# Altium integrated library Freescale Semiconductor Kinetis ARM.IntLib: 48 symbols (part 2 of 6)
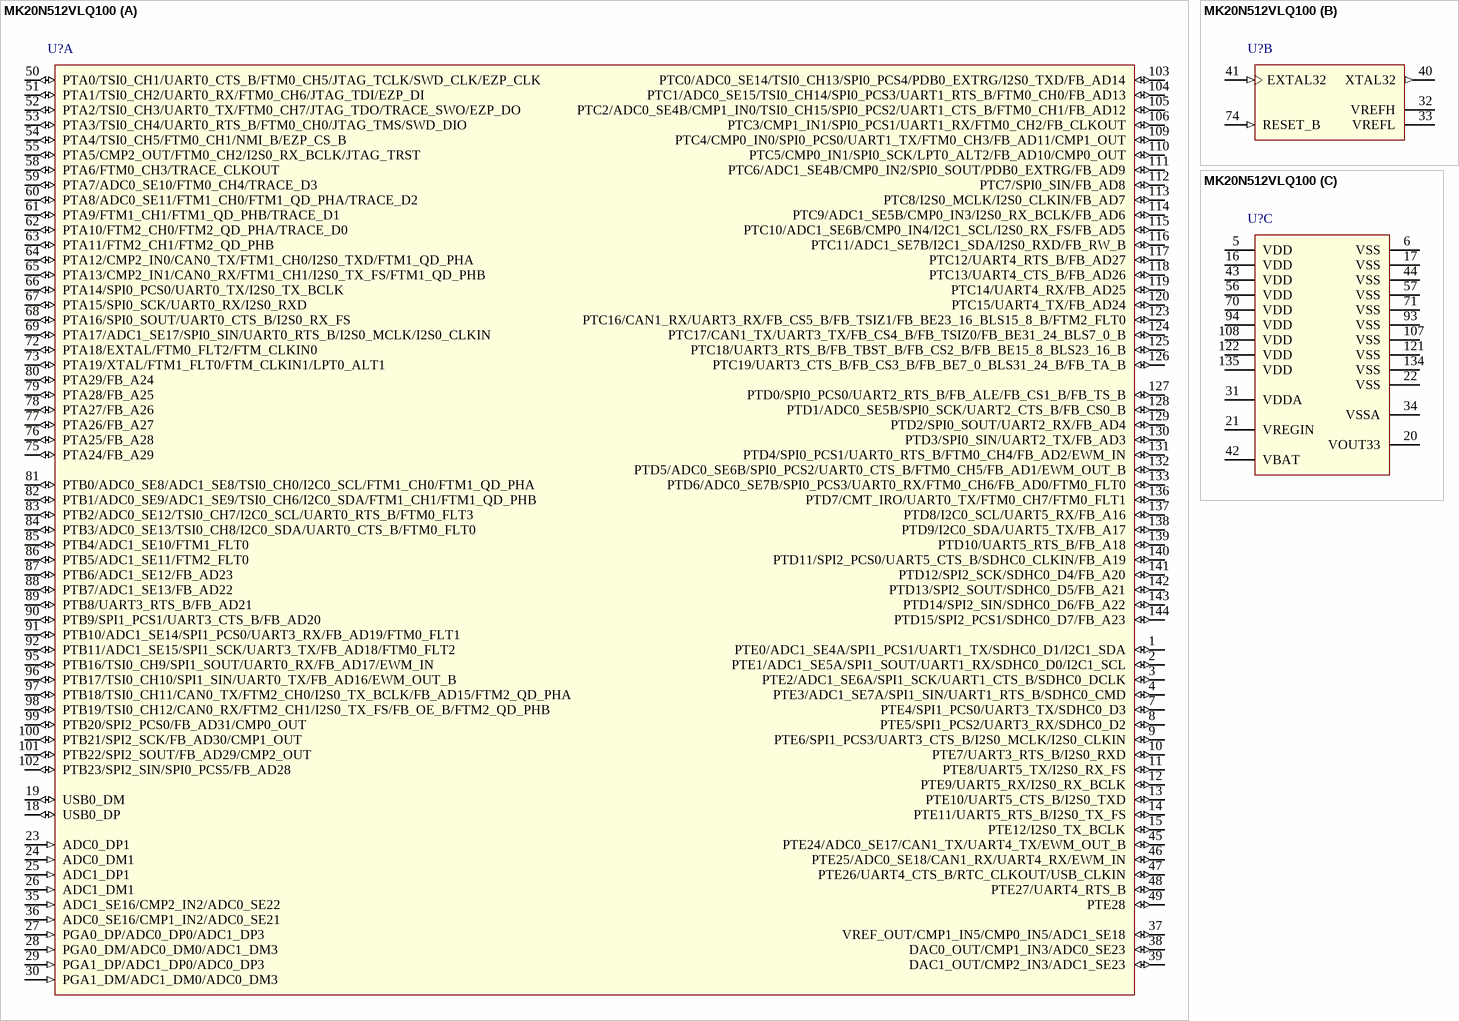
[diagram p36: symbol MK20N512VLQ100]

## MK20N512VLQ100
designator U?
Kinetis 32-Bit ARM Cortex-M4 Core, K20, 512KB Program Flash Memory, 128KB RAM, 144-Pin LQFP; DatasheetVersion: rev4, Mar-2011; PackageVersion: revG, Nov-2009; PackageReference: 918-03; PackageDescription: 144-Pin Thin Quad Flat Pack, 20 x 20 mm Body, 0.5 mm Pitch; ComponentLink1Description: Manufacturer URL; ComponentLink1URL: http://www.freescale.com/
footprint 918-03_N (Thin QFP, 144-Leads, Body 20x20mm, Pitch 0.5mm, IPC Medium Density)
footprint 918-03_L (Thin QFP, 144-Leads, Body 20x20mm, Pitch 0.5mm, IPC High Density)
footprint 918-03_M (Thin QFP, 144-Leads, Body 20x20mm, Pitch 0.5mm, IPC Low Density)
part A pins: 1 PTE0/ADC1_SE4A/SPI1_PCS1/UART1_TX/SDHC0_D1/I2C1_SDA (io), 2 PTE1/ADC1_SE5A/SPI1_SOUT/UART1_RX/SDHC0_D0/I2C1_SCL (io), 3 PTE2/ADC1_SE6A/SPI1_SCK/UART1_CTS_B/SDHC0_DCLK (io), 4 PTE3/ADC1_SE7A/SPI1_SIN/UART1_RTS_B/SDHC0_CMD (io), 7 PTE4/SPI1_PCS0/UART3_TX/SDHC0_D3 (io), 8 PTE5/SPI1_PCS2/UART3_RX/SDHC0_D2 (io), 9 PTE6/SPI1_PCS3/UART3_CTS_B/I2S0_MCLK/I2S0_CLKIN (io), 10 PTE7/UART3_RTS_B/I2S0_RXD (io), 11 PTE8/UART5_TX/I2S0_RX_FS (io), 12 PTE9/UART5_RX/I2S0_RX_BCLK (io), 13 PTE10/UART5_CTS_B/I2S0_TXD (io), 14 PTE11/UART5_RTS_B/I2S0_TX_FS (io), 15 PTE12/I2S0_TX_BCLK (io), 18 USB0_DP (io), 19 USB0_DM (io), 23 ADC0_DP1 (in), 24 ADC0_DM1 (in), 25 ADC1_DP1 (in), 26 ADC1_DM1 (in), 27 PGA0_DP/ADC0_DP0/ADC1_DP3 (in), 28 PGA0_DM/ADC0_DM0/ADC1_DM3 (in), 29 PGA1_DP/ADC1_DP0/ADC0_DP3 (in), 30 PGA1_DM/ADC1_DM0/ADC0_DM3 (in), 35 ADC1_SE16/CMP2_IN2/ADC0_SE22 (in), 36 ADC0_SE16/CMP1_IN2/ADC0_SE21 (in), 37 VREF_OUT/CMP1_IN5/CMP0_IN5/ADC1_SE18 (io), 38 DAC0_OUT/CMP1_IN3/ADC0_SE23 (io), 39 DAC1_OUT/CMP2_IN3/ADC1_SE23 (io), 45 PTE24/ADC0_SE17/CAN1_TX/UART4_TX/EWM_OUT_B (io), 46 PTE25/ADC0_SE18/CAN1_RX/UART4_RX/EWM_IN (io), 47 PTE26/UART4_CTS_B/RTC_CLKOUT/USB_CLKIN (io), 48 PTE27/UART4_RTS_B (io), 49 PTE28 (io), 50 PTA0/TSI0_CH1/UART0_CTS_B/FTM0_CH5/JTAG_TCLK/SWD_CLK/EZP_CLK (io), 51 PTA1/TSI0_CH2/UART0_RX/FTM0_CH6/JTAG_TDI/EZP_DI (io), 52 PTA2/TSI0_CH3/UART0_TX/FTM0_CH7/JTAG_TDO/TRACE_SWO/EZP_DO (io), 53 PTA3/TSI0_CH4/UART0_RTS_B/FTM0_CH0/JTAG_TMS/SWD_DIO (io), 54 PTA4/TSI0_CH5/FTM0_CH1/NMI_B/EZP_CS_B (io), 55 PTA5/CMP2_OUT/FTM0_CH2/I2S0_RX_BCLK/JTAG_TRST (io), 58 PTA6/FTM0_CH3/TRACE_CLKOUT (io), 59 PTA7/ADC0_SE10/FTM0_CH4/TRACE_D3 (io), 60 PTA8/ADC0_SE11/FTM1_CH0/FTM1_QD_PHA/TRACE_D2 (io), 61 PTA9/FTM1_CH1/FTM1_QD_PHB/TRACE_D1 (io), 62 PTA10/FTM2_CH0/FTM2_QD_PHA/TRACE_D0 (io), 63 PTA11/FTM2_CH1/FTM2_QD_PHB (io), 64 PTA12/CMP2_IN0/CAN0_TX/FTM1_CH0/I2S0_TXD/FTM1_QD_PHA (io), 65 PTA13/CMP2_IN1/CAN0_RX/FTM1_CH1/I2S0_TX_FS/FTM1_QD_PHB (io), 66 PTA14/SPI0_PCS0/UART0_TX/I2S0_TX_BCLK (io), 67 PTA15/SPI0_SCK/UART0_RX/I2S0_RXD (io), 68 PTA16/SPI0_SOUT/UART0_CTS_B/I2S0_RX_FS (io), 69 PTA17/ADC1_SE17/SPI0_SIN/UART0_RTS_B/I2S0_MCLK/I2S0_CLKIN (io), 72 PTA18/EXTAL/FTM0_FLT2/FTM_CLKIN0 (io), 73 PTA19/XTAL/FTM1_FLT0/FTM_CLKIN1/LPT0_ALT1 (io), 75 PTA24/FB_A29 (io), 76 PTA25/FB_A28 (io), 77 PTA26/FB_A27 (io), 78 PTA27/FB_A26 (io), 79 PTA28/FB_A25 (io), 80 PTA29/FB_A24 (io), 81 PTB0/ADC0_SE8/ADC1_SE8/TSI0_CH0/I2C0_SCL/FTM1_CH0/FTM1_QD_PHA (io), 82 PTB1/ADC0_SE9/ADC1_SE9/TSI0_CH6/I2C0_SDA/FTM1_CH1/FTM1_QD_PHB (io), 83 PTB2/ADC0_SE12/TSI0_CH7/I2C0_SCL/UART0_RTS_B/FTM0_FLT3 (io), 84 PTB3/ADC0_SE13/TSI0_CH8/I2C0_SDA/UART0_CTS_B/FTM0_FLT0 (io), 85 PTB4/ADC1_SE10/FTM1_FLT0 (io), 86 PTB5/ADC1_SE11/FTM2_FLT0 (io), 87 PTB6/ADC1_SE12/FB_AD23 (io), 88 PTB7/ADC1_SE13/FB_AD22 (io), 89 PTB8/UART3_RTS_B/FB_AD21 (io), 90 PTB9/SPI1_PCS1/UART3_CTS_B/FB_AD20 (io), 91 PTB10/ADC1_SE14/SPI1_PCS0/UART3_RX/FB_AD19/FTM0_FLT1 (io), 92 PTB11/ADC1_SE15/SPI1_SCK/UART3_TX/FB_AD18/FTM0_FLT2 (io), 95 PTB16/TSI0_CH9/SPI1_SOUT/UART0_RX/FB_AD17/EWM_IN (io), 96 PTB17/TSI0_CH10/SPI1_SIN/UART0_TX/FB_AD16/EWM_OUT_B (io), 97 PTB18/TSI0_CH11/CAN0_TX/FTM2_CH0/I2S0_TX_BCLK/FB_AD15/FTM2_QD_PHA (io), 98 PTB19/TSI0_CH12/CAN0_RX/FTM2_CH1/I2S0_TX_FS/FB_OE_B/FTM2_QD_PHB (io), 99 PTB20/SPI2_PCS0/FB_AD31/CMP0_OUT (io), 100 PTB21/SPI2_SCK/FB_AD30/CMP1_OUT (io), 101 PTB22/SPI2_SOUT/FB_AD29/CMP2_OUT (io), 102 PTB23/SPI2_SIN/SPI0_PCS5/FB_AD28 (io), 103 PTC0/ADC0_SE14/TSI0_CH13/SPI0_PCS4/PDB0_EXTRG/I2S0_TXD/FB_AD14 (io), 104 PTC1/ADC0_SE15/TSI0_CH14/SPI0_PCS3/UART1_RTS_B/FTM0_CH0/FB_AD13 (io), 105 PTC2/ADC0_SE4B/CMP1_IN0/TSI0_CH15/SPI0_PCS2/UART1_CTS_B/FTM0_CH1/FB_AD12 (io), 106 PTC3/CMP1_IN1/SPI0_PCS1/UART1_RX/FTM0_CH2/FB_CLKOUT (io), 109 PTC4/CMP0_IN0/SPI0_PCS0/UART1_TX/FTM0_CH3/FB_AD11/CMP1_OUT (io), 110 PTC5/CMP0_IN1/SPI0_SCK/LPT0_ALT2/FB_AD10/CMP0_OUT (io), 111 PTC6/ADC1_SE4B/CMP0_IN2/SPI0_SOUT/PDB0_EXTRG/FB_AD9 (io), 112 PTC7/SPI0_SIN/FB_AD8 (io), 113 PTC8/I2S0_MCLK/I2S0_CLKIN/FB_AD7 (io), 114 PTC9/ADC1_SE5B/CMP0_IN3/I2S0_RX_BCLK/FB_AD6 (io), 115 PTC10/ADC1_SE6B/CMP0_IN4/I2C1_SCL/I2S0_RX_FS/FB_AD5 (io), 116 PTC11/ADC1_SE7B/I2C1_SDA/I2S0_RXD/FB_RW_B (io), 117 PTC12/UART4_RTS_B/FB_AD27 (io), 118 PTC13/UART4_CTS_B/FB_AD26 (io), 119 PTC14/UART4_RX/FB_AD25 (io), 120 PTC15/UART4_TX/FB_AD24 (io), 123 PTC16/CAN1_RX/UART3_RX/FB_CS5_B/FB_TSIZ1/FB_BE23_16_BLS15_8_B/FTM2_FLT0 (io), 124 PTC17/CAN1_TX/UART3_TX/FB_CS4_B/FB_TSIZ0/FB_BE31_24_BLS7_0_B (io), 125 PTC18/UART3_RTS_B/FB_TBST_B/FB_CS2_B/FB_BE15_8_BLS23_16_B (io), 126 PTC19/UART3_CTS_B/FB_CS3_B/FB_BE7_0_BLS31_24_B/FB_TA_B (io), 127 PTD0/SPI0_PCS0/UART2_RTS_B/FB_ALE/FB_CS1_B/FB_TS_B (io), 128 PTD1/ADC0_SE5B/SPI0_SCK/UART2_CTS_B/FB_CS0_B (io), 129 PTD2/SPI0_SOUT/UART2_RX/FB_AD4 (io), 130 PTD3/SPI0_SIN/UART2_TX/FB_AD3 (io), 131 PTD4/SPI0_PCS1/UART0_RTS_B/FTM0_CH4/FB_AD2/EWM_IN (io), 132 PTD5/ADC0_SE6B/SPI0_PCS2/UART0_CTS_B/FTM0_CH5/FB_AD1/EWM_OUT_B (io), 133 PTD6/ADC0_SE7B/SPI0_PCS3/UART0_RX/FTM0_CH6/FB_AD0/FTM0_FLT0 (io), 136 PTD7/CMT_IRO/UART0_TX/FTM0_CH7/FTM0_FLT1 (io), 137 PTD8/I2C0_SCL/UART5_RX/FB_A16 (io), 138 PTD9/I2C0_SDA/UART5_TX/FB_A17 (io), 139 PTD10/UART5_RTS_B/FB_A18 (io), 140 PTD11/SPI2_PCS0/UART5_CTS_B/SDHC0_CLKIN/FB_A19 (io), 141 PTD12/SPI2_SCK/SDHC0_D4/FB_A20 (io), 142 PTD13/SPI2_SOUT/SDHC0_D5/FB_A21 (io), 143 PTD14/SPI2_SIN/SDHC0_D6/FB_A22 (io), 144 PTD15/SPI2_PCS1/SDHC0_D7/FB_A23 (io)
part B pins: 32 VREFH (power), 33 VREFL (power), 40 XTAL32 (out), 41 EXTAL32 (in), 74 RESET_B (in)
part C pins: 5 VDD (power), 6 VSS (power), 16 VDD (power), 17 VSS (power), 20 VOUT33 (power), 21 VREGIN (power), 22 VSS (power), 31 VDDA (power), 34 VSSA (power), 42 VBAT (power), 43 VDD (power), 44 VSS (power), 56 VDD (power), 57 VSS (power), 70 VDD (power), 71 VSS (power), 93 VSS (power), 94 VDD (power), 107 VSS (power), 108 VDD (power), 121 VSS (power), 122 VDD (power), 134 VSS (power), 135 VDD (power)

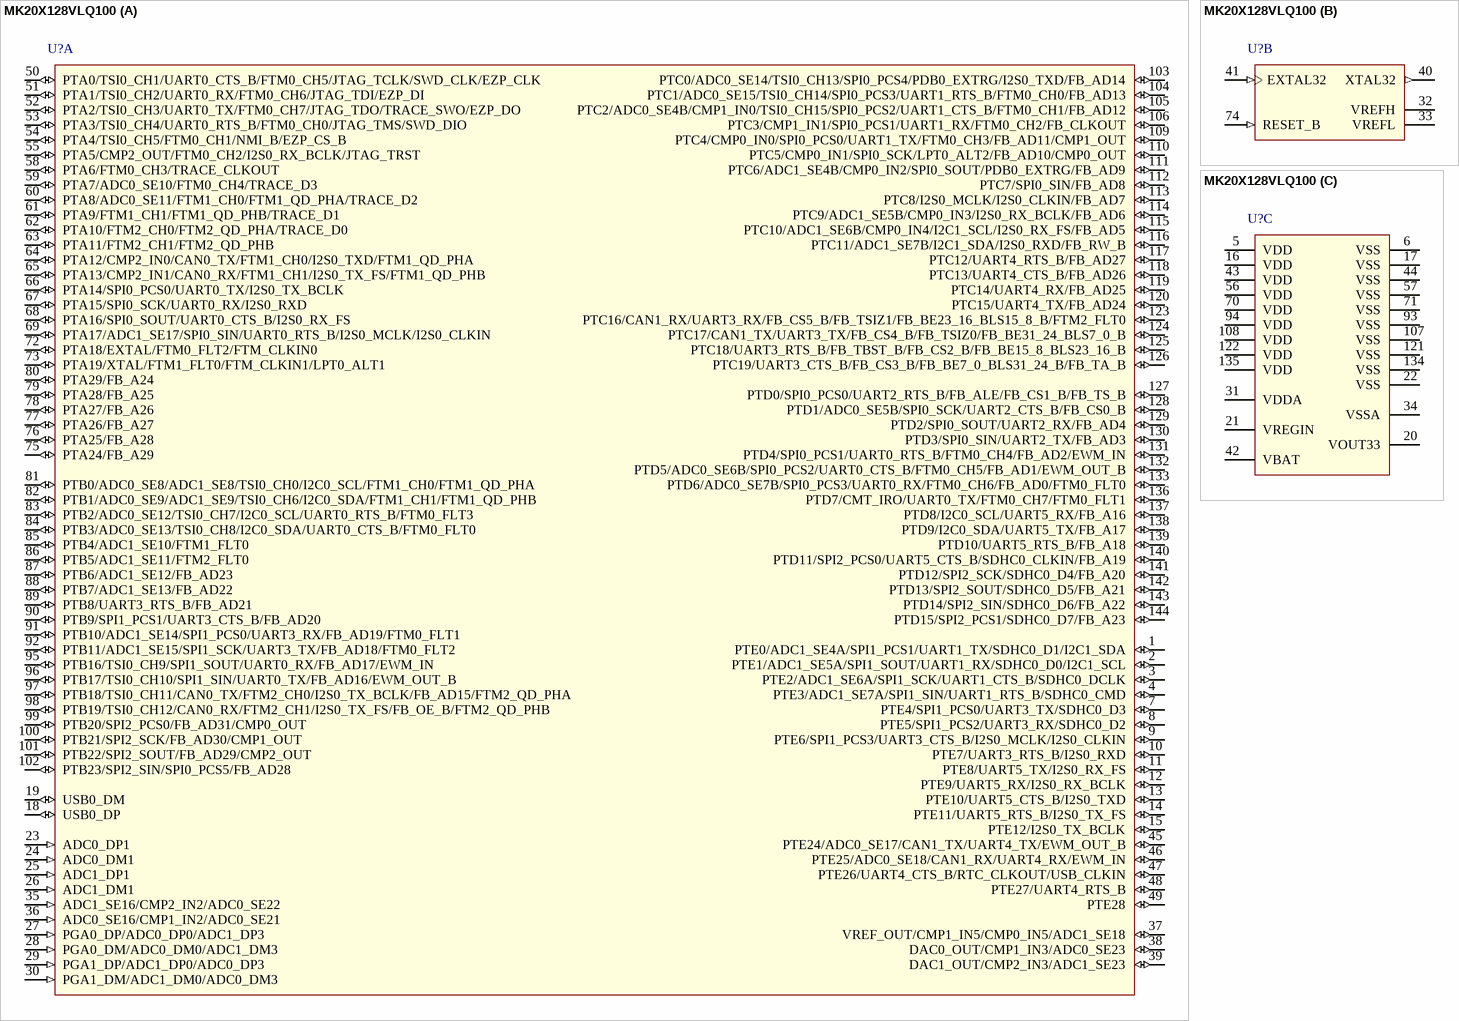
[diagram p7: symbol MK20X128VLQ100]

## MK20X128VLQ100
designator U?
Kinetis 32-Bit ARM Cortex-M4 Core, K20, 128KB Program Flash Memory, 128KB RAM, 4KB FlexRAM, 144-Pin LQFP; DatasheetVersion: rev4, Mar-2011; PackageVersion: revG, Nov-2009; PackageReference: 918-03; PackageDescription: 144-Pin Thin Quad Flat Pack, 20 x 20 mm Body, 0.5 mm Pitch; ComponentLink1Description: Manufacturer URL; ComponentLink1URL: http://www.freescale.com/
footprint 918-03_N (Thin QFP, 144-Leads, Body 20x20mm, Pitch 0.5mm, IPC Medium Density)
footprint 918-03_L (Thin QFP, 144-Leads, Body 20x20mm, Pitch 0.5mm, IPC High Density)
footprint 918-03_M (Thin QFP, 144-Leads, Body 20x20mm, Pitch 0.5mm, IPC Low Density)
part A pins: 1 PTE0/ADC1_SE4A/SPI1_PCS1/UART1_TX/SDHC0_D1/I2C1_SDA (io), 2 PTE1/ADC1_SE5A/SPI1_SOUT/UART1_RX/SDHC0_D0/I2C1_SCL (io), 3 PTE2/ADC1_SE6A/SPI1_SCK/UART1_CTS_B/SDHC0_DCLK (io), 4 PTE3/ADC1_SE7A/SPI1_SIN/UART1_RTS_B/SDHC0_CMD (io), 7 PTE4/SPI1_PCS0/UART3_TX/SDHC0_D3 (io), 8 PTE5/SPI1_PCS2/UART3_RX/SDHC0_D2 (io), 9 PTE6/SPI1_PCS3/UART3_CTS_B/I2S0_MCLK/I2S0_CLKIN (io), 10 PTE7/UART3_RTS_B/I2S0_RXD (io), 11 PTE8/UART5_TX/I2S0_RX_FS (io), 12 PTE9/UART5_RX/I2S0_RX_BCLK (io), 13 PTE10/UART5_CTS_B/I2S0_TXD (io), 14 PTE11/UART5_RTS_B/I2S0_TX_FS (io), 15 PTE12/I2S0_TX_BCLK (io), 18 USB0_DP (io), 19 USB0_DM (io), 23 ADC0_DP1 (in), 24 ADC0_DM1 (in), 25 ADC1_DP1 (in), 26 ADC1_DM1 (in), 27 PGA0_DP/ADC0_DP0/ADC1_DP3 (in), 28 PGA0_DM/ADC0_DM0/ADC1_DM3 (in), 29 PGA1_DP/ADC1_DP0/ADC0_DP3 (in), 30 PGA1_DM/ADC1_DM0/ADC0_DM3 (in), 35 ADC1_SE16/CMP2_IN2/ADC0_SE22 (in), 36 ADC0_SE16/CMP1_IN2/ADC0_SE21 (in), 37 VREF_OUT/CMP1_IN5/CMP0_IN5/ADC1_SE18 (io), 38 DAC0_OUT/CMP1_IN3/ADC0_SE23 (io), 39 DAC1_OUT/CMP2_IN3/ADC1_SE23 (io), 45 PTE24/ADC0_SE17/CAN1_TX/UART4_TX/EWM_OUT_B (io), 46 PTE25/ADC0_SE18/CAN1_RX/UART4_RX/EWM_IN (io), 47 PTE26/UART4_CTS_B/RTC_CLKOUT/USB_CLKIN (io), 48 PTE27/UART4_RTS_B (io), 49 PTE28 (io), 50 PTA0/TSI0_CH1/UART0_CTS_B/FTM0_CH5/JTAG_TCLK/SWD_CLK/EZP_CLK (io), 51 PTA1/TSI0_CH2/UART0_RX/FTM0_CH6/JTAG_TDI/EZP_DI (io), 52 PTA2/TSI0_CH3/UART0_TX/FTM0_CH7/JTAG_TDO/TRACE_SWO/EZP_DO (io), 53 PTA3/TSI0_CH4/UART0_RTS_B/FTM0_CH0/JTAG_TMS/SWD_DIO (io), 54 PTA4/TSI0_CH5/FTM0_CH1/NMI_B/EZP_CS_B (io), 55 PTA5/CMP2_OUT/FTM0_CH2/I2S0_RX_BCLK/JTAG_TRST (io), 58 PTA6/FTM0_CH3/TRACE_CLKOUT (io), 59 PTA7/ADC0_SE10/FTM0_CH4/TRACE_D3 (io), 60 PTA8/ADC0_SE11/FTM1_CH0/FTM1_QD_PHA/TRACE_D2 (io), 61 PTA9/FTM1_CH1/FTM1_QD_PHB/TRACE_D1 (io), 62 PTA10/FTM2_CH0/FTM2_QD_PHA/TRACE_D0 (io), 63 PTA11/FTM2_CH1/FTM2_QD_PHB (io), 64 PTA12/CMP2_IN0/CAN0_TX/FTM1_CH0/I2S0_TXD/FTM1_QD_PHA (io), 65 PTA13/CMP2_IN1/CAN0_RX/FTM1_CH1/I2S0_TX_FS/FTM1_QD_PHB (io), 66 PTA14/SPI0_PCS0/UART0_TX/I2S0_TX_BCLK (io), 67 PTA15/SPI0_SCK/UART0_RX/I2S0_RXD (io), 68 PTA16/SPI0_SOUT/UART0_CTS_B/I2S0_RX_FS (io), 69 PTA17/ADC1_SE17/SPI0_SIN/UART0_RTS_B/I2S0_MCLK/I2S0_CLKIN (io), 72 PTA18/EXTAL/FTM0_FLT2/FTM_CLKIN0 (io), 73 PTA19/XTAL/FTM1_FLT0/FTM_CLKIN1/LPT0_ALT1 (io), 75 PTA24/FB_A29 (io), 76 PTA25/FB_A28 (io), 77 PTA26/FB_A27 (io), 78 PTA27/FB_A26 (io), 79 PTA28/FB_A25 (io), 80 PTA29/FB_A24 (io), 81 PTB0/ADC0_SE8/ADC1_SE8/TSI0_CH0/I2C0_SCL/FTM1_CH0/FTM1_QD_PHA (io), 82 PTB1/ADC0_SE9/ADC1_SE9/TSI0_CH6/I2C0_SDA/FTM1_CH1/FTM1_QD_PHB (io), 83 PTB2/ADC0_SE12/TSI0_CH7/I2C0_SCL/UART0_RTS_B/FTM0_FLT3 (io), 84 PTB3/ADC0_SE13/TSI0_CH8/I2C0_SDA/UART0_CTS_B/FTM0_FLT0 (io), 85 PTB4/ADC1_SE10/FTM1_FLT0 (io), 86 PTB5/ADC1_SE11/FTM2_FLT0 (io), 87 PTB6/ADC1_SE12/FB_AD23 (io), 88 PTB7/ADC1_SE13/FB_AD22 (io), 89 PTB8/UART3_RTS_B/FB_AD21 (io), 90 PTB9/SPI1_PCS1/UART3_CTS_B/FB_AD20 (io), 91 PTB10/ADC1_SE14/SPI1_PCS0/UART3_RX/FB_AD19/FTM0_FLT1 (io), 92 PTB11/ADC1_SE15/SPI1_SCK/UART3_TX/FB_AD18/FTM0_FLT2 (io), 95 PTB16/TSI0_CH9/SPI1_SOUT/UART0_RX/FB_AD17/EWM_IN (io), 96 PTB17/TSI0_CH10/SPI1_SIN/UART0_TX/FB_AD16/EWM_OUT_B (io), 97 PTB18/TSI0_CH11/CAN0_TX/FTM2_CH0/I2S0_TX_BCLK/FB_AD15/FTM2_QD_PHA (io), 98 PTB19/TSI0_CH12/CAN0_RX/FTM2_CH1/I2S0_TX_FS/FB_OE_B/FTM2_QD_PHB (io), 99 PTB20/SPI2_PCS0/FB_AD31/CMP0_OUT (io), 100 PTB21/SPI2_SCK/FB_AD30/CMP1_OUT (io), 101 PTB22/SPI2_SOUT/FB_AD29/CMP2_OUT (io), 102 PTB23/SPI2_SIN/SPI0_PCS5/FB_AD28 (io), 103 PTC0/ADC0_SE14/TSI0_CH13/SPI0_PCS4/PDB0_EXTRG/I2S0_TXD/FB_AD14 (io), 104 PTC1/ADC0_SE15/TSI0_CH14/SPI0_PCS3/UART1_RTS_B/FTM0_CH0/FB_AD13 (io), 105 PTC2/ADC0_SE4B/CMP1_IN0/TSI0_CH15/SPI0_PCS2/UART1_CTS_B/FTM0_CH1/FB_AD12 (io), 106 PTC3/CMP1_IN1/SPI0_PCS1/UART1_RX/FTM0_CH2/FB_CLKOUT (io), 109 PTC4/CMP0_IN0/SPI0_PCS0/UART1_TX/FTM0_CH3/FB_AD11/CMP1_OUT (io), 110 PTC5/CMP0_IN1/SPI0_SCK/LPT0_ALT2/FB_AD10/CMP0_OUT (io), 111 PTC6/ADC1_SE4B/CMP0_IN2/SPI0_SOUT/PDB0_EXTRG/FB_AD9 (io), 112 PTC7/SPI0_SIN/FB_AD8 (io), 113 PTC8/I2S0_MCLK/I2S0_CLKIN/FB_AD7 (io), 114 PTC9/ADC1_SE5B/CMP0_IN3/I2S0_RX_BCLK/FB_AD6 (io), 115 PTC10/ADC1_SE6B/CMP0_IN4/I2C1_SCL/I2S0_RX_FS/FB_AD5 (io), 116 PTC11/ADC1_SE7B/I2C1_SDA/I2S0_RXD/FB_RW_B (io), 117 PTC12/UART4_RTS_B/FB_AD27 (io), 118 PTC13/UART4_CTS_B/FB_AD26 (io), 119 PTC14/UART4_RX/FB_AD25 (io), 120 PTC15/UART4_TX/FB_AD24 (io), 123 PTC16/CAN1_RX/UART3_RX/FB_CS5_B/FB_TSIZ1/FB_BE23_16_BLS15_8_B/FTM2_FLT0 (io), 124 PTC17/CAN1_TX/UART3_TX/FB_CS4_B/FB_TSIZ0/FB_BE31_24_BLS7_0_B (io), 125 PTC18/UART3_RTS_B/FB_TBST_B/FB_CS2_B/FB_BE15_8_BLS23_16_B (io), 126 PTC19/UART3_CTS_B/FB_CS3_B/FB_BE7_0_BLS31_24_B/FB_TA_B (io), 127 PTD0/SPI0_PCS0/UART2_RTS_B/FB_ALE/FB_CS1_B/FB_TS_B (io), 128 PTD1/ADC0_SE5B/SPI0_SCK/UART2_CTS_B/FB_CS0_B (io), 129 PTD2/SPI0_SOUT/UART2_RX/FB_AD4 (io), 130 PTD3/SPI0_SIN/UART2_TX/FB_AD3 (io), 131 PTD4/SPI0_PCS1/UART0_RTS_B/FTM0_CH4/FB_AD2/EWM_IN (io), 132 PTD5/ADC0_SE6B/SPI0_PCS2/UART0_CTS_B/FTM0_CH5/FB_AD1/EWM_OUT_B (io), 133 PTD6/ADC0_SE7B/SPI0_PCS3/UART0_RX/FTM0_CH6/FB_AD0/FTM0_FLT0 (io), 136 PTD7/CMT_IRO/UART0_TX/FTM0_CH7/FTM0_FLT1 (io), 137 PTD8/I2C0_SCL/UART5_RX/FB_A16 (io), 138 PTD9/I2C0_SDA/UART5_TX/FB_A17 (io), 139 PTD10/UART5_RTS_B/FB_A18 (io), 140 PTD11/SPI2_PCS0/UART5_CTS_B/SDHC0_CLKIN/FB_A19 (io), 141 PTD12/SPI2_SCK/SDHC0_D4/FB_A20 (io), 142 PTD13/SPI2_SOUT/SDHC0_D5/FB_A21 (io), 143 PTD14/SPI2_SIN/SDHC0_D6/FB_A22 (io), 144 PTD15/SPI2_PCS1/SDHC0_D7/FB_A23 (io)
part B pins: 32 VREFH (power), 33 VREFL (power), 40 XTAL32 (out), 41 EXTAL32 (in), 74 RESET_B (in)
part C pins: 5 VDD (power), 6 VSS (power), 16 VDD (power), 17 VSS (power), 20 VOUT33 (power), 21 VREGIN (power), 22 VSS (power), 31 VDDA (power), 34 VSSA (power), 42 VBAT (power), 43 VDD (power), 44 VSS (power), 56 VDD (power), 57 VSS (power), 70 VDD (power), 71 VSS (power), 93 VSS (power), 94 VDD (power), 107 VSS (power), 108 VDD (power), 121 VSS (power), 122 VDD (power), 134 VSS (power), 135 VDD (power)

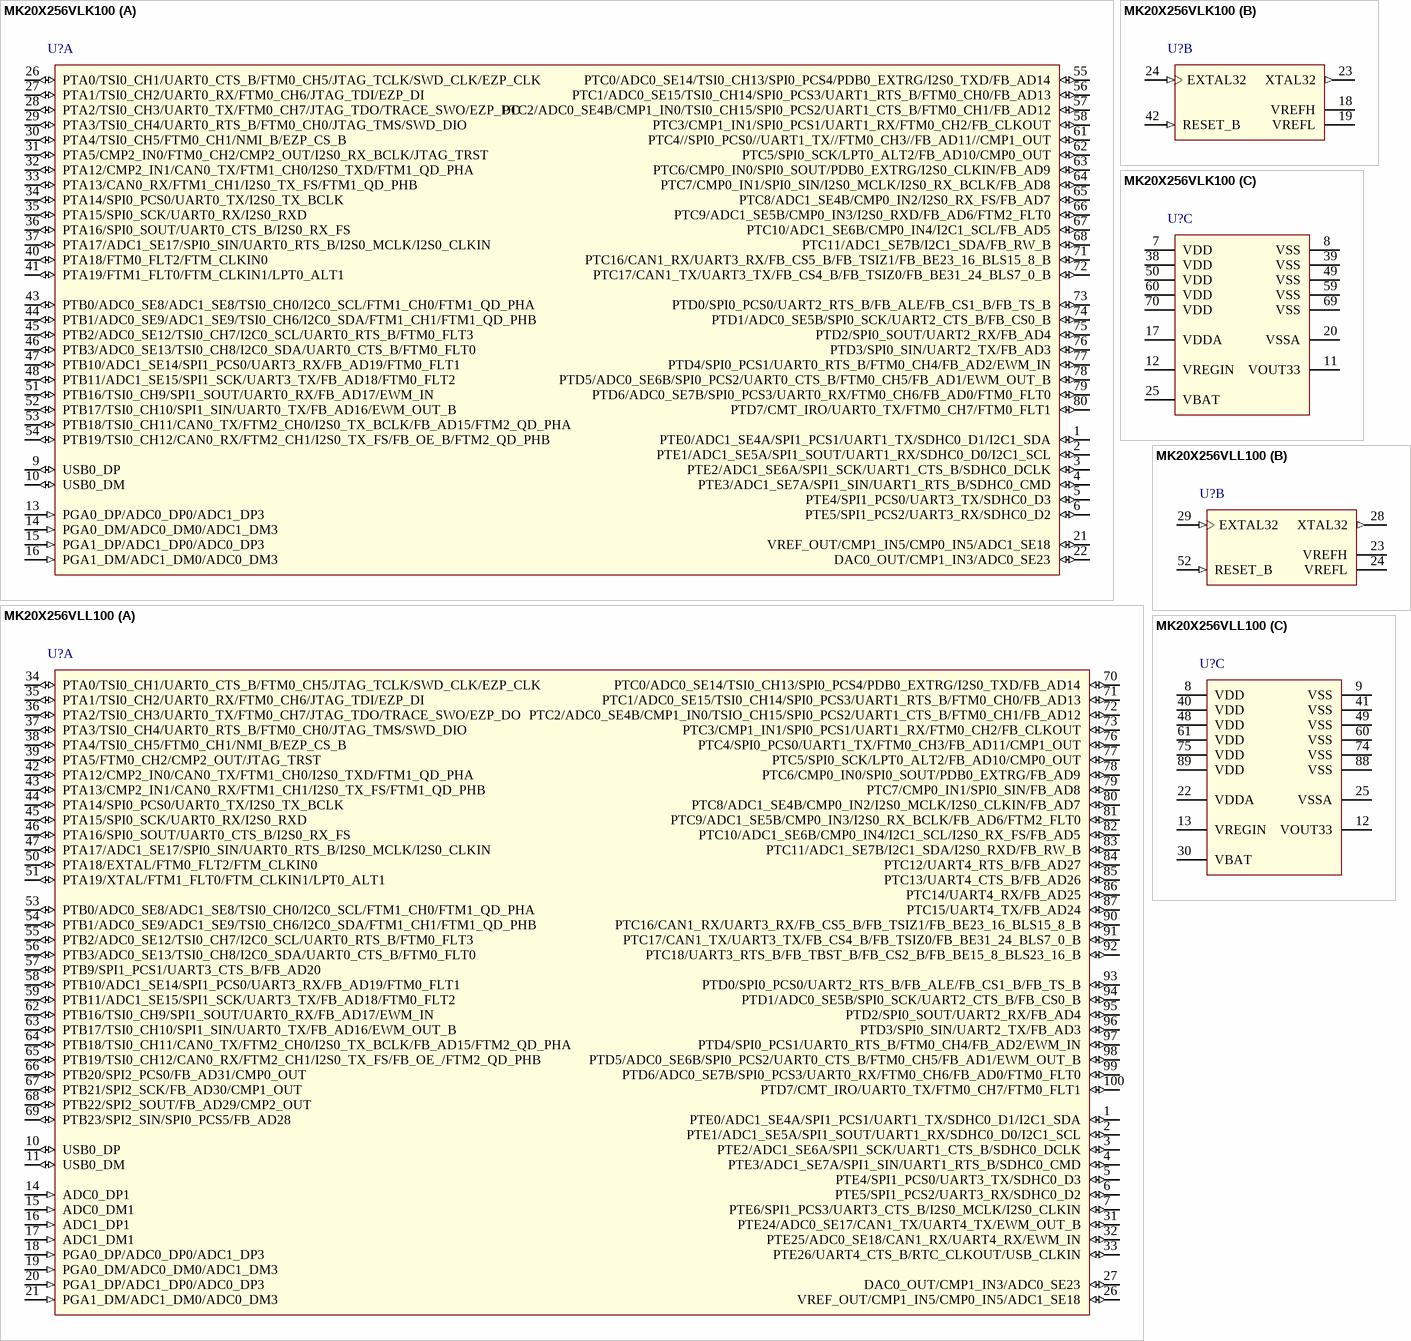
[diagram p8: symbols MK20X256VLK100 to MK20X256VLL100]

## MK20X256VLK100
designator U?
Kinetis 32-Bit ARM Cortex-M4 Core, K20, 256KB Program Flash Memory, 128KB RAM, 4KB FlexRAM, 80-Pin LQFP; DatasheetVersion: rev4, Mar-2011; PackageVersion: revE, Mar-2011; PackageReference: 917-01; PackageDescription: 80-Pin Thin Quad Flat Pack, 12 x 12 mm Body, 0.5 mm Pitch; ComponentLink1Description: Manufacturer URL; ComponentLink1URL: http://www.freescale.com/
footprint 917-01_N (Thin QFP, 80-Leads, Body 12x12mm, Pitch 0.5mm, IPC Medium Density)
footprint 917-01_L (Thin QFP, 80-Leads, Body 12x12mm, Pitch 0.5mm, IPC High Density)
footprint 917-01_M (Thin QFP, 80-Leads, Body 12x12mm, Pitch 0.5mm, IPC Low Density)
part A pins: 1 PTE0/ADC1_SE4A/SPI1_PCS1/UART1_TX/SDHC0_D1/I2C1_SDA (io), 2 PTE1/ADC1_SE5A/SPI1_SOUT/UART1_RX/SDHC0_D0/I2C1_SCL (io), 3 PTE2/ADC1_SE6A/SPI1_SCK/UART1_CTS_B/SDHC0_DCLK (io), 4 PTE3/ADC1_SE7A/SPI1_SIN/UART1_RTS_B/SDHC0_CMD (io), 5 PTE4/SPI1_PCS0/UART3_TX/SDHC0_D3 (io), 6 PTE5/SPI1_PCS2/UART3_RX/SDHC0_D2 (io), 9 USB0_DP (io), 10 USB0_DM (io), 13 PGA0_DP/ADC0_DP0/ADC1_DP3 (in), 14 PGA0_DM/ADC0_DM0/ADC1_DM3 (in), 15 PGA1_DP/ADC1_DP0/ADC0_DP3 (in), 16 PGA1_DM/ADC1_DM0/ADC0_DM3 (in), 21 VREF_OUT/CMP1_IN5/CMP0_IN5/ADC1_SE18 (io), 22 DAC0_OUT/CMP1_IN3/ADC0_SE23 (io), 26 PTA0/TSI0_CH1/UART0_CTS_B/FTM0_CH5/JTAG_TCLK/SWD_CLK/EZP_CLK (io), 27 PTA1/TSI0_CH2/UART0_RX/FTM0_CH6/JTAG_TDI/EZP_DI (io), 28 PTA2/TSI0_CH3/UART0_TX/FTM0_CH7/JTAG_TDO/TRACE_SWO/EZP_DO (io), 29 PTA3/TSI0_CH4/UART0_RTS_B/FTM0_CH0/JTAG_TMS/SWD_DIO (io), 30 PTA4/TSI0_CH5/FTM0_CH1/NMI_B/EZP_CS_B (io), 31 PTA5/CMP2_IN0/FTM0_CH2/CMP2_OUT/I2S0_RX_BCLK/JTAG_TRST (io), 32 PTA12/CMP2_IN1/CAN0_TX/FTM1_CH0/I2S0_TXD/FTM1_QD_PHA (io), 33 PTA13/CAN0_RX/FTM1_CH1/I2S0_TX_FS/FTM1_QD_PHB (io), 34 PTA14/SPI0_PCS0/UART0_TX/I2S0_TX_BCLK (io), 35 PTA15/SPI0_SCK/UART0_RX/I2S0_RXD (io), 36 PTA16/SPI0_SOUT/UART0_CTS_B/I2S0_RX_FS (io), 37 PTA17/ADC1_SE17/SPI0_SIN/UART0_RTS_B/I2S0_MCLK/I2S0_CLKIN (io), 40 PTA18/FTM0_FLT2/FTM_CLKIN0 (io), 41 PTA19/FTM1_FLT0/FTM_CLKIN1/LPT0_ALT1 (io), 43 PTB0/ADC0_SE8/ADC1_SE8/TSI0_CH0/I2C0_SCL/FTM1_CH0/FTM1_QD_PHA (io), 44 PTB1/ADC0_SE9/ADC1_SE9/TSI0_CH6/I2C0_SDA/FTM1_CH1/FTM1_QD_PHB (io), 45 PTB2/ADC0_SE12/TSI0_CH7/I2C0_SCL/UART0_RTS_B/FTM0_FLT3 (io), 46 PTB3/ADC0_SE13/TSI0_CH8/I2C0_SDA/UART0_CTS_B/FTM0_FLT0 (io), 47 PTB10/ADC1_SE14/SPI1_PCS0/UART3_RX/FB_AD19/FTM0_FLT1 (io), 48 PTB11/ADC1_SE15/SPI1_SCK/UART3_TX/FB_AD18/FTM0_FLT2 (io), 51 PTB16/TSI0_CH9/SPI1_SOUT/UART0_RX/FB_AD17/EWM_IN (io), 52 PTB17/TSI0_CH10/SPI1_SIN/UART0_TX/FB_AD16/EWM_OUT_B (io), 53 PTB18/TSI0_CH11/CAN0_TX/FTM2_CH0/I2S0_TX_BCLK/FB_AD15/FTM2_QD_PHA (io), 54 PTB19/TSI0_CH12/CAN0_RX/FTM2_CH1/I2S0_TX_FS/FB_OE_B/FTM2_QD_PHB (io), 55 PTC0/ADC0_SE14/TSI0_CH13/SPI0_PCS4/PDB0_EXTRG/I2S0_TXD/FB_AD14 (io), 56 PTC1/ADC0_SE15/TSI0_CH14/SPI0_PCS3/UART1_RTS_B/FTM0_CH0/FB_AD13 (io), 57 PTC2/ADC0_SE4B/CMP1_IN0/TSI0_CH15/SPI0_PCS2/UART1_CTS_B/FTM0_CH1/FB_AD12 (io), 58 PTC3/CMP1_IN1/SPI0_PCS1/UART1_RX/FTM0_CH2/FB_CLKOUT (io), 61 PTC4//SPI0_PCS0//UART1_TX//FTM0_CH3//FB_AD11//CMP1_OUT (io), 62 PTC5/SPI0_SCK/LPT0_ALT2/FB_AD10/CMP0_OUT (io), 63 PTC6/CMP0_IN0/SPI0_SOUT/PDB0_EXTRG/I2S0_CLKIN/FB_AD9 (io), 64 PTC7/CMP0_IN1/SPI0_SIN/I2S0_MCLK/I2S0_RX_BCLK/FB_AD8 (io), 65 PTC8/ADC1_SE4B/CMP0_IN2/I2S0_RX_FS/FB_AD7 (io), 66 PTC9/ADC1_SE5B/CMP0_IN3/I2S0_RXD/FB_AD6/FTM2_FLT0 (io), 67 PTC10/ADC1_SE6B/CMP0_IN4/I2C1_SCL/FB_AD5 (io), 68 PTC11/ADC1_SE7B/I2C1_SDA/FB_RW_B (io), 71 PTC16/CAN1_RX/UART3_RX/FB_CS5_B/FB_TSIZ1/FB_BE23_16_BLS15_8_B (io), 72 PTC17/CAN1_TX/UART3_TX/FB_CS4_B/FB_TSIZ0/FB_BE31_24_BLS7_0_B (io), 73 PTD0/SPI0_PCS0/UART2_RTS_B/FB_ALE/FB_CS1_B/FB_TS_B (io), 74 PTD1/ADC0_SE5B/SPI0_SCK/UART2_CTS_B/FB_CS0_B (io), 75 PTD2/SPI0_SOUT/UART2_RX/FB_AD4 (io), 76 PTD3/SPI0_SIN/UART2_TX/FB_AD3 (io), 77 PTD4/SPI0_PCS1/UART0_RTS_B/FTM0_CH4/FB_AD2/EWM_IN (io), 78 PTD5/ADC0_SE6B/SPI0_PCS2/UART0_CTS_B/FTM0_CH5/FB_AD1/EWM_OUT_B (io), 79 PTD6/ADC0_SE7B/SPI0_PCS3/UART0_RX/FTM0_CH6/FB_AD0/FTM0_FLT0 (io), 80 PTD7/CMT_IRO/UART0_TX/FTM0_CH7/FTM0_FLT1 (io)
part B pins: 18 VREFH (power), 19 VREFL (power), 23 XTAL32 (out), 24 EXTAL32 (in), 42 RESET_B (in)
part C pins: 7 VDD (power), 8 VSS (power), 11 VOUT33 (power), 12 VREGIN (power), 17 VDDA (power), 20 VSSA (power), 25 VBAT (power), 38 VDD (power), 39 VSS (power), 49 VSS (power), 50 VDD (power), 59 VSS (power), 60 VDD (power), 69 VSS (power), 70 VDD (power)

## MK20X256VLL100
designator U?
Kinetis 32-Bit ARM Cortex-M4 Core, K20, 256KB Program Flash Memory, 128KB RAM, 4KB FlexRAM, 100-Pin LQFP; DatasheetVersion: rev4, Mar-2011; PackageVersion: rev3.1, Nov-2000; PackageReference: 983-02; PackageDescription: 100-Pin Shrink Quad Flat Pack 0.5 mm Pitch; Code_IPC: SQFP50P1600X1600-100; ComponentLink1Description: Manufacturer URL; ComponentLink1URL: http://www.freescale.com/
footprint 983-02_N (Shrink QFP, 100-Leads, Body 14x14mm, Pitch 0.5mm, IPC Medium Density)
footprint 983-02_L (Shrink QFP, 100-Leads, Body 14x14mm, Pitch 0.5mm, IPC High Density)
footprint 983-02_M (Shrink QFP, 100-Leads, Body 14x14mm, Pitch 0.5mm, IPC Low Density)
part A pins: 1 PTE0/ADC1_SE4A/SPI1_PCS1/UART1_TX/SDHC0_D1/I2C1_SDA (io), 2 PTE1/ADC1_SE5A/SPI1_SOUT/UART1_RX/SDHC0_D0/I2C1_SCL (io), 3 PTE2/ADC1_SE6A/SPI1_SCK/UART1_CTS_B/SDHC0_DCLK (io), 4 PTE3/ADC1_SE7A/SPI1_SIN/UART1_RTS_B/SDHC0_CMD (io), 5 PTE4/SPI1_PCS0/UART3_TX/SDHC0_D3 (io), 6 PTE5/SPI1_PCS2/UART3_RX/SDHC0_D2 (io), 7 PTE6/SPI1_PCS3/UART3_CTS_B/I2S0_MCLK/I2S0_CLKIN (io), 10 USB0_DP (io), 11 USB0_DM (io), 14 ADC0_DP1 (in), 15 ADC0_DM1 (in), 16 ADC1_DP1 (in), 17 ADC1_DM1 (in), 18 PGA0_DP/ADC0_DP0/ADC1_DP3 (in), 19 PGA0_DM/ADC0_DM0/ADC1_DM3 (in), 20 PGA1_DP/ADC1_DP0/ADC0_DP3 (in), 21 PGA1_DM/ADC1_DM0/ADC0_DM3 (in), 26 VREF_OUT/CMP1_IN5/CMP0_IN5/ADC1_SE18 (io), 27 DAC0_OUT/CMP1_IN3/ADC0_SE23 (io), 31 PTE24/ADC0_SE17/CAN1_TX/UART4_TX/EWM_OUT_B (io), 32 PTE25/ADC0_SE18/CAN1_RX/UART4_RX/EWM_IN (io), 33 PTE26/UART4_CTS_B/RTC_CLKOUT/USB_CLKIN (io), 34 PTA0/TSI0_CH1/UART0_CTS_B/FTM0_CH5/JTAG_TCLK/SWD_CLK/EZP_CLK (io), 35 PTA1/TSI0_CH2/UART0_RX/FTM0_CH6/JTAG_TDI/EZP_DI (io), 36 PTA2/TSI0_CH3/UART0_TX/FTM0_CH7/JTAG_TDO/TRACE_SWO/EZP_DO (io), 37 PTA3/TSI0_CH4/UART0_RTS_B/FTM0_CH0/JTAG_TMS/SWD_DIO (io), 38 PTA4/TSI0_CH5/FTM0_CH1/NMI_B/EZP_CS_B (io), 39 PTA5/FTM0_CH2/CMP2_OUT/JTAG_TRST (io), 42 PTA12/CMP2_IN0/CAN0_TX/FTM1_CH0/I2S0_TXD/FTM1_QD_PHA (io), 43 PTA13/CMP2_IN1/CAN0_RX/FTM1_CH1/I2S0_TX_FS/FTM1_QD_PHB (io), 44 PTA14/SPI0_PCS0/UART0_TX/I2S0_TX_BCLK (io), 45 PTA15/SPI0_SCK/UART0_RX/I2S0_RXD (io), 46 PTA16/SPI0_SOUT/UART0_CTS_B/I2S0_RX_FS (io), 47 PTA17/ADC1_SE17/SPI0_SIN/UART0_RTS_B/I2S0_MCLK/I2S0_CLKIN (io), 50 PTA18/EXTAL/FTM0_FLT2/FTM_CLKIN0 (io), 51 PTA19/XTAL/FTM1_FLT0/FTM_CLKIN1/LPT0_ALT1 (io), 53 PTB0/ADC0_SE8/ADC1_SE8/TSI0_CH0/I2C0_SCL/FTM1_CH0/FTM1_QD_PHA (io), 54 PTB1/ADC0_SE9/ADC1_SE9/TSI0_CH6/I2C0_SDA/FTM1_CH1/FTM1_QD_PHB (io), 55 PTB2/ADC0_SE12/TSI0_CH7/I2C0_SCL/UART0_RTS_B/FTM0_FLT3 (io), 56 PTB3/ADC0_SE13/TSI0_CH8/I2C0_SDA/UART0_CTS_B/FTM0_FLT0 (io), 57 PTB9/SPI1_PCS1/UART3_CTS_B/FB_AD20 (io), 58 PTB10/ADC1_SE14/SPI1_PCS0/UART3_RX/FB_AD19/FTM0_FLT1 (io), 59 PTB11/ADC1_SE15/SPI1_SCK/UART3_TX/FB_AD18/FTM0_FLT2 (io), 62 PTB16/TSI0_CH9/SPI1_SOUT/UART0_RX/FB_AD17/EWM_IN (io), 63 PTB17/TSI0_CH10/SPI1_SIN/UART0_TX/FB_AD16/EWM_OUT_B (io), 64 PTB18/TSI0_CH11/CAN0_TX/FTM2_CH0/I2S0_TX_BCLK/FB_AD15/FTM2_QD_PHA (io), 65 PTB19/TSI0_CH12/CAN0_RX/FTM2_CH1/I2S0_TX_FS/FB_OE_/FTM2_QD_PHB (io), 66 PTB20/SPI2_PCS0/FB_AD31/CMP0_OUT (io), 67 PTB21/SPI2_SCK/FB_AD30/CMP1_OUT (io), 68 PTB22/SPI2_SOUT/FB_AD29/CMP2_OUT (io), 69 PTB23/SPI2_SIN/SPI0_PCS5/FB_AD28 (io), 70 PTC0/ADC0_SE14/TSI0_CH13/SPI0_PCS4/PDB0_EXTRG/I2S0_TXD/FB_AD14 (io), 71 PTC1/ADC0_SE15/TSI0_CH14/SPI0_PCS3/UART1_RTS_B/FTM0_CH0/FB_AD13 (io), 72 PTC2/ADC0_SE4B/CMP1_IN0/TSIO_CH15/SPI0_PCS2/UART1_CTS_B/FTM0_CH1/FB_AD12 (io), 73 PTC3/CMP1_IN1/SPI0_PCS1/UART1_RX/FTM0_CH2/FB_CLKOUT (io), 76 PTC4/SPI0_PCS0/UART1_TX/FTM0_CH3/FB_AD11/CMP1_OUT (io), 77 PTC5/SPI0_SCK/LPT0_ALT2/FB_AD10/CMP0_OUT (io), 78 PTC6/CMP0_IN0/SPI0_SOUT/PDB0_EXTRG/FB_AD9 (io), 79 PTC7/CMP0_IN1/SPI0_SIN/FB_AD8 (io), 80 PTC8/ADC1_SE4B/CMP0_IN2/I2S0_MCLK/I2S0_CLKIN/FB_AD7 (io), 81 PTC9/ADC1_SE5B/CMP0_IN3/I2S0_RX_BCLK/FB_AD6/FTM2_FLT0 (io), 82 PTC10/ADC1_SE6B/CMP0_IN4/I2C1_SCL/I2S0_RX_FS/FB_AD5 (io), 83 PTC11/ADC1_SE7B/I2C1_SDA/I2S0_RXD/FB_RW_B (io), 84 PTC12/UART4_RTS_B/FB_AD27 (io), 85 PTC13/UART4_CTS_B/FB_AD26 (io), 86 PTC14/UART4_RX/FB_AD25 (io), 87 PTC15/UART4_TX/FB_AD24 (io), 90 PTC16/CAN1_RX/UART3_RX/FB_CS5_B/FB_TSIZ1/FB_BE23_16_BLS15_8_B (io), 91 PTC17/CAN1_TX/UART3_TX/FB_CS4_B/FB_TSIZ0/FB_BE31_24_BLS7_0_B (io), 92 PTC18/UART3_RTS_B/FB_TBST_B/FB_CS2_B/FB_BE15_8_BLS23_16_B (io), 93 PTD0/SPI0_PCS0/UART2_RTS_B/FB_ALE/FB_CS1_B/FB_TS_B (io), 94 PTD1/ADC0_SE5B/SPI0_SCK/UART2_CTS_B/FB_CS0_B (io), 95 PTD2/SPI0_SOUT/UART2_RX/FB_AD4 (io), 96 PTD3/SPI0_SIN/UART2_TX/FB_AD3 (io), 97 PTD4/SPI0_PCS1/UART0_RTS_B/FTM0_CH4/FB_AD2/EWM_IN (io), 98 PTD5/ADC0_SE6B/SPI0_PCS2/UART0_CTS_B/FTM0_CH5/FB_AD1/EWM_OUT_B (io), 99 PTD6/ADC0_SE7B/SPI0_PCS3/UART0_RX/FTM0_CH6/FB_AD0/FTM0_FLT0 (io), 100 PTD7/CMT_IRO/UART0_TX/FTM0_CH7/FTM0_FLT1 (io)
part B pins: 23 VREFH (power), 24 VREFL (power), 28 XTAL32 (out), 29 EXTAL32 (in), 52 RESET_B (in)
part C pins: 8 VDD (power), 9 VSS (power), 12 VOUT33 (power), 13 VREGIN (power), 22 VDDA (power), 25 VSSA (power), 30 VBAT (power), 40 VDD (power), 41 VSS (power), 48 VDD (power), 49 VSS (power), 60 VSS (power), 61 VDD (power), 74 VSS (power), 75 VDD (power), 88 VSS (power), 89 VDD (power)

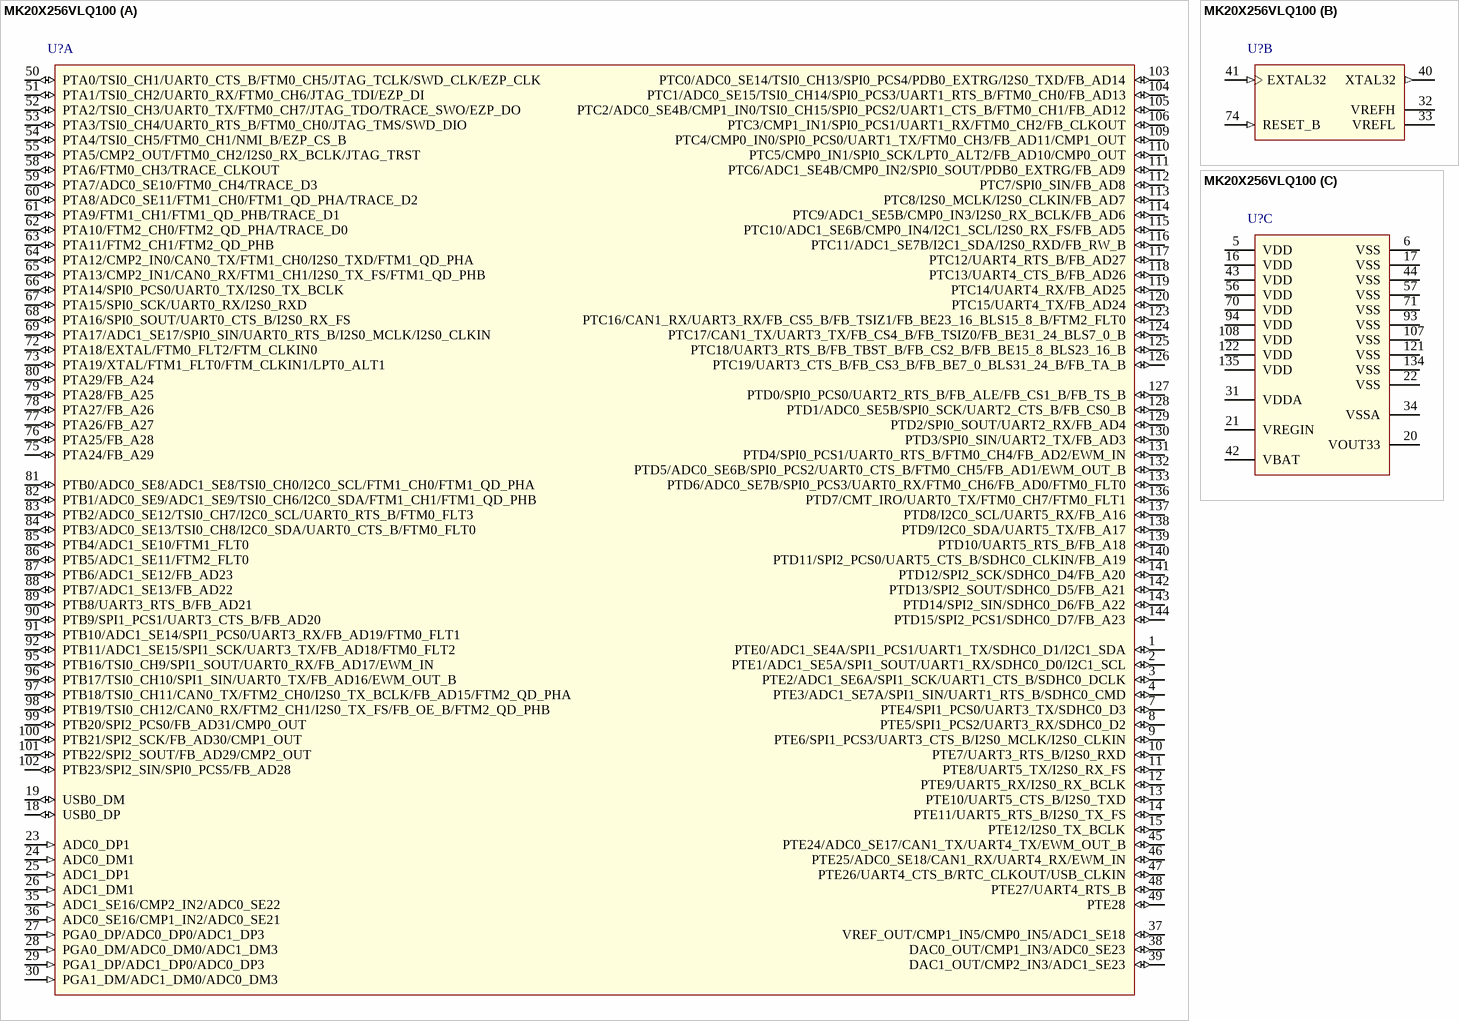
[diagram p9: symbol MK20X256VLQ100]

## MK20X256VLQ100
designator U?
Kinetis 32-Bit ARM Cortex-M4 Core, K20, 256KB Program Flash Memory, 128KB RAM, 4KB FlexRAM, 144-Pin LQFP; DatasheetVersion: rev4, Mar-2011; PackageVersion: revG, Nov-2009; PackageReference: 918-03; PackageDescription: 144-Pin Thin Quad Flat Pack, 20 x 20 mm Body, 0.5 mm Pitch; ComponentLink1Description: Manufacturer URL; ComponentLink1URL: http://www.freescale.com/
footprint 918-03_N (Thin QFP, 144-Leads, Body 20x20mm, Pitch 0.5mm, IPC Medium Density)
footprint 918-03_L (Thin QFP, 144-Leads, Body 20x20mm, Pitch 0.5mm, IPC High Density)
footprint 918-03_M (Thin QFP, 144-Leads, Body 20x20mm, Pitch 0.5mm, IPC Low Density)
part A pins: 1 PTE0/ADC1_SE4A/SPI1_PCS1/UART1_TX/SDHC0_D1/I2C1_SDA (io), 2 PTE1/ADC1_SE5A/SPI1_SOUT/UART1_RX/SDHC0_D0/I2C1_SCL (io), 3 PTE2/ADC1_SE6A/SPI1_SCK/UART1_CTS_B/SDHC0_DCLK (io), 4 PTE3/ADC1_SE7A/SPI1_SIN/UART1_RTS_B/SDHC0_CMD (io), 7 PTE4/SPI1_PCS0/UART3_TX/SDHC0_D3 (io), 8 PTE5/SPI1_PCS2/UART3_RX/SDHC0_D2 (io), 9 PTE6/SPI1_PCS3/UART3_CTS_B/I2S0_MCLK/I2S0_CLKIN (io), 10 PTE7/UART3_RTS_B/I2S0_RXD (io), 11 PTE8/UART5_TX/I2S0_RX_FS (io), 12 PTE9/UART5_RX/I2S0_RX_BCLK (io), 13 PTE10/UART5_CTS_B/I2S0_TXD (io), 14 PTE11/UART5_RTS_B/I2S0_TX_FS (io), 15 PTE12/I2S0_TX_BCLK (io), 18 USB0_DP (io), 19 USB0_DM (io), 23 ADC0_DP1 (in), 24 ADC0_DM1 (in), 25 ADC1_DP1 (in), 26 ADC1_DM1 (in), 27 PGA0_DP/ADC0_DP0/ADC1_DP3 (in), 28 PGA0_DM/ADC0_DM0/ADC1_DM3 (in), 29 PGA1_DP/ADC1_DP0/ADC0_DP3 (in), 30 PGA1_DM/ADC1_DM0/ADC0_DM3 (in), 35 ADC1_SE16/CMP2_IN2/ADC0_SE22 (in), 36 ADC0_SE16/CMP1_IN2/ADC0_SE21 (in), 37 VREF_OUT/CMP1_IN5/CMP0_IN5/ADC1_SE18 (io), 38 DAC0_OUT/CMP1_IN3/ADC0_SE23 (io), 39 DAC1_OUT/CMP2_IN3/ADC1_SE23 (io), 45 PTE24/ADC0_SE17/CAN1_TX/UART4_TX/EWM_OUT_B (io), 46 PTE25/ADC0_SE18/CAN1_RX/UART4_RX/EWM_IN (io), 47 PTE26/UART4_CTS_B/RTC_CLKOUT/USB_CLKIN (io), 48 PTE27/UART4_RTS_B (io), 49 PTE28 (io), 50 PTA0/TSI0_CH1/UART0_CTS_B/FTM0_CH5/JTAG_TCLK/SWD_CLK/EZP_CLK (io), 51 PTA1/TSI0_CH2/UART0_RX/FTM0_CH6/JTAG_TDI/EZP_DI (io), 52 PTA2/TSI0_CH3/UART0_TX/FTM0_CH7/JTAG_TDO/TRACE_SWO/EZP_DO (io), 53 PTA3/TSI0_CH4/UART0_RTS_B/FTM0_CH0/JTAG_TMS/SWD_DIO (io), 54 PTA4/TSI0_CH5/FTM0_CH1/NMI_B/EZP_CS_B (io), 55 PTA5/CMP2_OUT/FTM0_CH2/I2S0_RX_BCLK/JTAG_TRST (io), 58 PTA6/FTM0_CH3/TRACE_CLKOUT (io), 59 PTA7/ADC0_SE10/FTM0_CH4/TRACE_D3 (io), 60 PTA8/ADC0_SE11/FTM1_CH0/FTM1_QD_PHA/TRACE_D2 (io), 61 PTA9/FTM1_CH1/FTM1_QD_PHB/TRACE_D1 (io), 62 PTA10/FTM2_CH0/FTM2_QD_PHA/TRACE_D0 (io), 63 PTA11/FTM2_CH1/FTM2_QD_PHB (io), 64 PTA12/CMP2_IN0/CAN0_TX/FTM1_CH0/I2S0_TXD/FTM1_QD_PHA (io), 65 PTA13/CMP2_IN1/CAN0_RX/FTM1_CH1/I2S0_TX_FS/FTM1_QD_PHB (io), 66 PTA14/SPI0_PCS0/UART0_TX/I2S0_TX_BCLK (io), 67 PTA15/SPI0_SCK/UART0_RX/I2S0_RXD (io), 68 PTA16/SPI0_SOUT/UART0_CTS_B/I2S0_RX_FS (io), 69 PTA17/ADC1_SE17/SPI0_SIN/UART0_RTS_B/I2S0_MCLK/I2S0_CLKIN (io), 72 PTA18/EXTAL/FTM0_FLT2/FTM_CLKIN0 (io), 73 PTA19/XTAL/FTM1_FLT0/FTM_CLKIN1/LPT0_ALT1 (io), 75 PTA24/FB_A29 (io), 76 PTA25/FB_A28 (io), 77 PTA26/FB_A27 (io), 78 PTA27/FB_A26 (io), 79 PTA28/FB_A25 (io), 80 PTA29/FB_A24 (io), 81 PTB0/ADC0_SE8/ADC1_SE8/TSI0_CH0/I2C0_SCL/FTM1_CH0/FTM1_QD_PHA (io), 82 PTB1/ADC0_SE9/ADC1_SE9/TSI0_CH6/I2C0_SDA/FTM1_CH1/FTM1_QD_PHB (io), 83 PTB2/ADC0_SE12/TSI0_CH7/I2C0_SCL/UART0_RTS_B/FTM0_FLT3 (io), 84 PTB3/ADC0_SE13/TSI0_CH8/I2C0_SDA/UART0_CTS_B/FTM0_FLT0 (io), 85 PTB4/ADC1_SE10/FTM1_FLT0 (io), 86 PTB5/ADC1_SE11/FTM2_FLT0 (io), 87 PTB6/ADC1_SE12/FB_AD23 (io), 88 PTB7/ADC1_SE13/FB_AD22 (io), 89 PTB8/UART3_RTS_B/FB_AD21 (io), 90 PTB9/SPI1_PCS1/UART3_CTS_B/FB_AD20 (io), 91 PTB10/ADC1_SE14/SPI1_PCS0/UART3_RX/FB_AD19/FTM0_FLT1 (io), 92 PTB11/ADC1_SE15/SPI1_SCK/UART3_TX/FB_AD18/FTM0_FLT2 (io), 95 PTB16/TSI0_CH9/SPI1_SOUT/UART0_RX/FB_AD17/EWM_IN (io), 96 PTB17/TSI0_CH10/SPI1_SIN/UART0_TX/FB_AD16/EWM_OUT_B (io), 97 PTB18/TSI0_CH11/CAN0_TX/FTM2_CH0/I2S0_TX_BCLK/FB_AD15/FTM2_QD_PHA (io), 98 PTB19/TSI0_CH12/CAN0_RX/FTM2_CH1/I2S0_TX_FS/FB_OE_B/FTM2_QD_PHB (io), 99 PTB20/SPI2_PCS0/FB_AD31/CMP0_OUT (io), 100 PTB21/SPI2_SCK/FB_AD30/CMP1_OUT (io), 101 PTB22/SPI2_SOUT/FB_AD29/CMP2_OUT (io), 102 PTB23/SPI2_SIN/SPI0_PCS5/FB_AD28 (io), 103 PTC0/ADC0_SE14/TSI0_CH13/SPI0_PCS4/PDB0_EXTRG/I2S0_TXD/FB_AD14 (io), 104 PTC1/ADC0_SE15/TSI0_CH14/SPI0_PCS3/UART1_RTS_B/FTM0_CH0/FB_AD13 (io), 105 PTC2/ADC0_SE4B/CMP1_IN0/TSI0_CH15/SPI0_PCS2/UART1_CTS_B/FTM0_CH1/FB_AD12 (io), 106 PTC3/CMP1_IN1/SPI0_PCS1/UART1_RX/FTM0_CH2/FB_CLKOUT (io), 109 PTC4/CMP0_IN0/SPI0_PCS0/UART1_TX/FTM0_CH3/FB_AD11/CMP1_OUT (io), 110 PTC5/CMP0_IN1/SPI0_SCK/LPT0_ALT2/FB_AD10/CMP0_OUT (io), 111 PTC6/ADC1_SE4B/CMP0_IN2/SPI0_SOUT/PDB0_EXTRG/FB_AD9 (io), 112 PTC7/SPI0_SIN/FB_AD8 (io), 113 PTC8/I2S0_MCLK/I2S0_CLKIN/FB_AD7 (io), 114 PTC9/ADC1_SE5B/CMP0_IN3/I2S0_RX_BCLK/FB_AD6 (io), 115 PTC10/ADC1_SE6B/CMP0_IN4/I2C1_SCL/I2S0_RX_FS/FB_AD5 (io), 116 PTC11/ADC1_SE7B/I2C1_SDA/I2S0_RXD/FB_RW_B (io), 117 PTC12/UART4_RTS_B/FB_AD27 (io), 118 PTC13/UART4_CTS_B/FB_AD26 (io), 119 PTC14/UART4_RX/FB_AD25 (io), 120 PTC15/UART4_TX/FB_AD24 (io), 123 PTC16/CAN1_RX/UART3_RX/FB_CS5_B/FB_TSIZ1/FB_BE23_16_BLS15_8_B/FTM2_FLT0 (io), 124 PTC17/CAN1_TX/UART3_TX/FB_CS4_B/FB_TSIZ0/FB_BE31_24_BLS7_0_B (io), 125 PTC18/UART3_RTS_B/FB_TBST_B/FB_CS2_B/FB_BE15_8_BLS23_16_B (io), 126 PTC19/UART3_CTS_B/FB_CS3_B/FB_BE7_0_BLS31_24_B/FB_TA_B (io), 127 PTD0/SPI0_PCS0/UART2_RTS_B/FB_ALE/FB_CS1_B/FB_TS_B (io), 128 PTD1/ADC0_SE5B/SPI0_SCK/UART2_CTS_B/FB_CS0_B (io), 129 PTD2/SPI0_SOUT/UART2_RX/FB_AD4 (io), 130 PTD3/SPI0_SIN/UART2_TX/FB_AD3 (io), 131 PTD4/SPI0_PCS1/UART0_RTS_B/FTM0_CH4/FB_AD2/EWM_IN (io), 132 PTD5/ADC0_SE6B/SPI0_PCS2/UART0_CTS_B/FTM0_CH5/FB_AD1/EWM_OUT_B (io), 133 PTD6/ADC0_SE7B/SPI0_PCS3/UART0_RX/FTM0_CH6/FB_AD0/FTM0_FLT0 (io), 136 PTD7/CMT_IRO/UART0_TX/FTM0_CH7/FTM0_FLT1 (io), 137 PTD8/I2C0_SCL/UART5_RX/FB_A16 (io), 138 PTD9/I2C0_SDA/UART5_TX/FB_A17 (io), 139 PTD10/UART5_RTS_B/FB_A18 (io), 140 PTD11/SPI2_PCS0/UART5_CTS_B/SDHC0_CLKIN/FB_A19 (io), 141 PTD12/SPI2_SCK/SDHC0_D4/FB_A20 (io), 142 PTD13/SPI2_SOUT/SDHC0_D5/FB_A21 (io), 143 PTD14/SPI2_SIN/SDHC0_D6/FB_A22 (io), 144 PTD15/SPI2_PCS1/SDHC0_D7/FB_A23 (io)
part B pins: 32 VREFH (power), 33 VREFL (power), 40 XTAL32 (out), 41 EXTAL32 (in), 74 RESET_B (in)
part C pins: 5 VDD (power), 6 VSS (power), 16 VDD (power), 17 VSS (power), 20 VOUT33 (power), 21 VREGIN (power), 22 VSS (power), 31 VDDA (power), 34 VSSA (power), 42 VBAT (power), 43 VDD (power), 44 VSS (power), 56 VDD (power), 57 VSS (power), 70 VDD (power), 71 VSS (power), 93 VSS (power), 94 VDD (power), 107 VSS (power), 108 VDD (power), 121 VSS (power), 122 VDD (power), 134 VSS (power), 135 VDD (power)

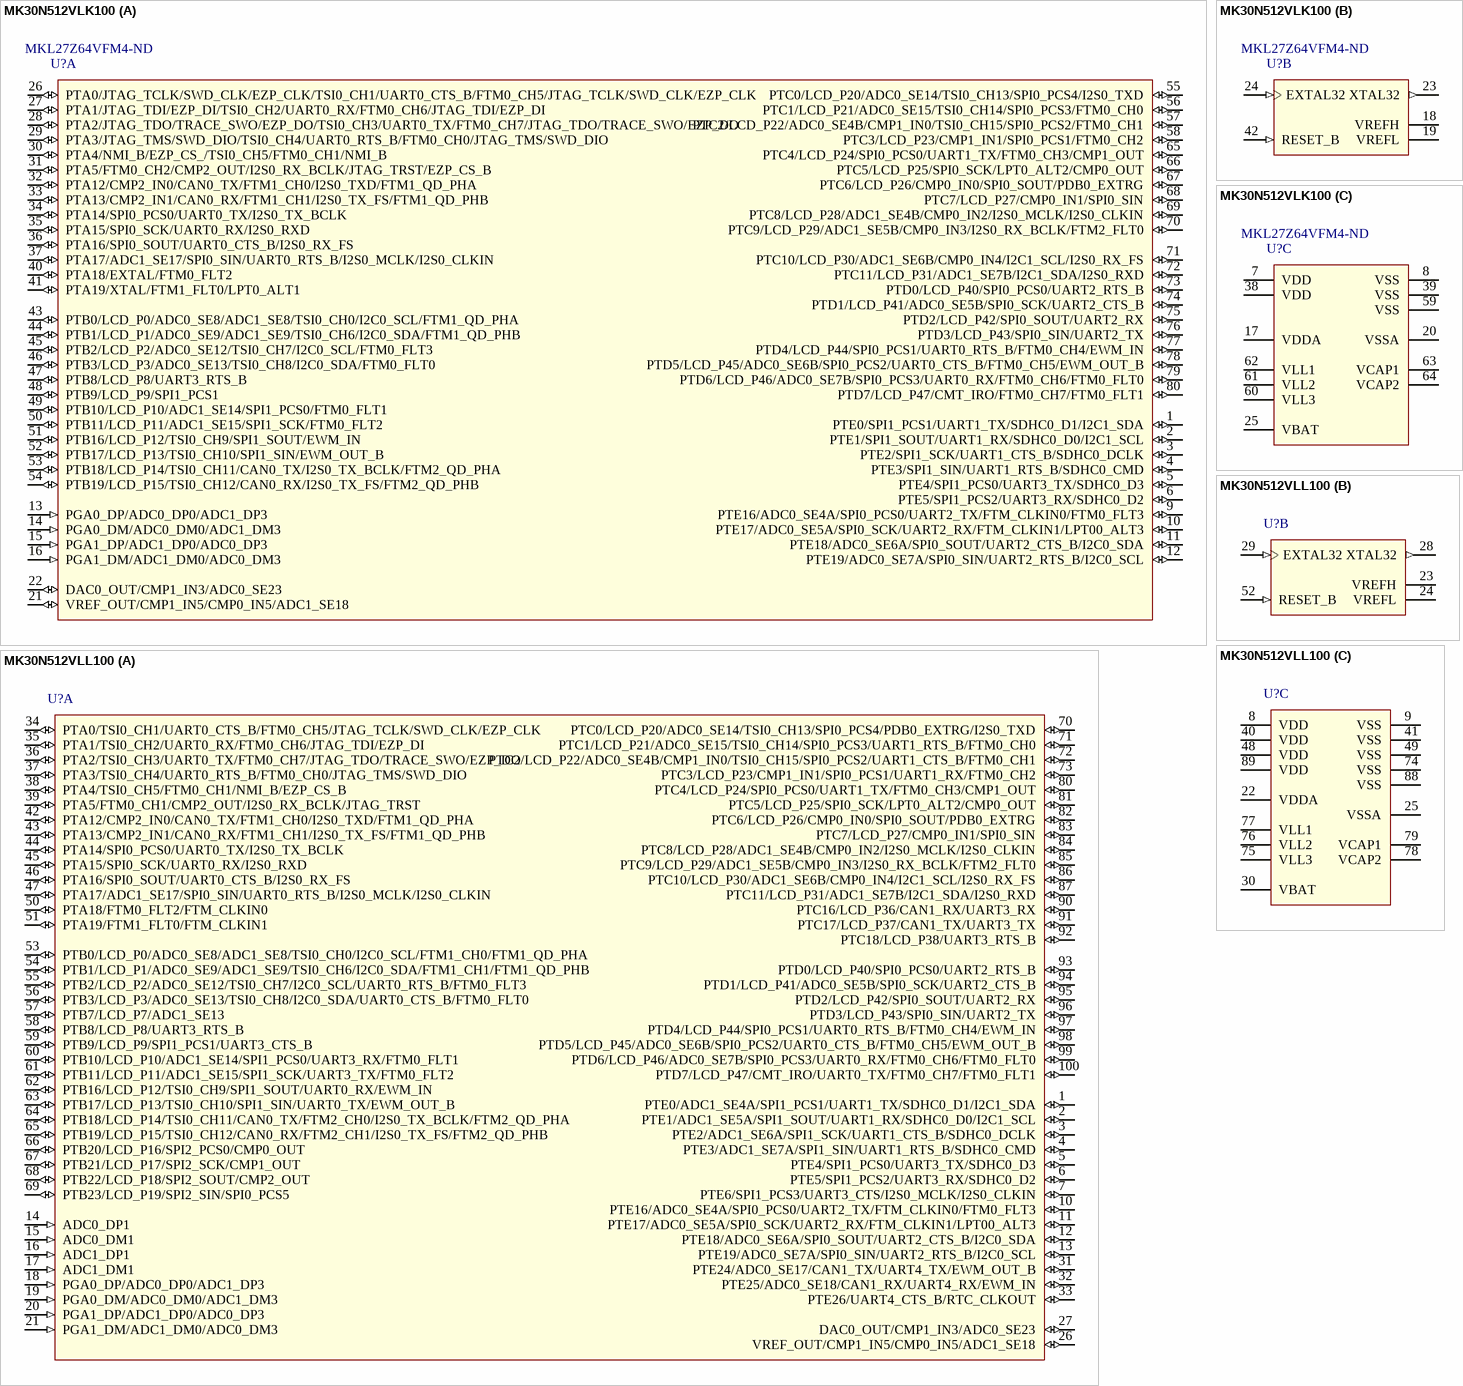
[diagram p10: symbols MK30N512VLK100 to MK30N512VLL100]

## MK30N512VLK100
designator U?  Supplier Part Number 1: MKL27Z64VFM4-ND
Kinetis 32-Bit ARM Cortex-M4 Core, K30, 512KB Program Flash Memory, 128KB RAM, 80-Pin LQFP; DatasheetVersion: rev4, Mar-2011; PackageVersion: revE, Mar-2011; PackageReference: 917-01; PackageDescription: 80-Pin Thin Quad Flat Pack, 12 x 12 mm Body, 0.5 mm Pitch; ComponentLink1Description: Manufacturer URL; ComponentLink1URL: http://www.freescale.com/; Supplier 1: Digi-Key
footprint 917-01_N (Thin QFP, 80-Leads, Body 12x12mm, Pitch 0.5mm, IPC Medium Density)
footprint 917-01_L (Thin QFP, 80-Leads, Body 12x12mm, Pitch 0.5mm, IPC High Density)
footprint 917-01_M (Thin QFP, 80-Leads, Body 12x12mm, Pitch 0.5mm, IPC Low Density)
part A pins: 1 PTE0/SPI1_PCS1/UART1_TX/SDHC0_D1/I2C1_SDA (io), 2 PTE1/SPI1_SOUT/UART1_RX/SDHC0_D0/I2C1_SCL (io), 3 PTE2/SPI1_SCK/UART1_CTS_B/SDHC0_DCLK (io), 4 PTE3/SPI1_SIN/UART1_RTS_B/SDHC0_CMD (io), 5 PTE4/SPI1_PCS0/UART3_TX/SDHC0_D3 (io), 6 PTE5/SPI1_PCS2/UART3_RX/SDHC0_D2 (io), 9 PTE16/ADC0_SE4A/SPI0_PCS0/UART2_TX/FTM_CLKIN0/FTM0_FLT3 (io), 10 PTE17/ADC0_SE5A/SPI0_SCK/UART2_RX/FTM_CLKIN1/LPT00_ALT3 (io), 11 PTE18/ADC0_SE6A/SPI0_SOUT/UART2_CTS_B/I2C0_SDA (io), 12 PTE19/ADC0_SE7A/SPI0_SIN/UART2_RTS_B/I2C0_SCL (io), 13 PGA0_DP/ADC0_DP0/ADC1_DP3 (in), 14 PGA0_DM/ADC0_DM0/ADC1_DM3 (in), 15 PGA1_DP/ADC1_DP0/ADC0_DP3 (in), 16 PGA1_DM/ADC1_DM0/ADC0_DM3 (in), 21 VREF_OUT/CMP1_IN5/CMP0_IN5/ADC1_SE18 (io), 22 DAC0_OUT/CMP1_IN3/ADC0_SE23 (io), 26 PTA0/JTAG_TCLK/SWD_CLK/EZP_CLK/TSI0_CH1/UART0_CTS_B/FTM0_CH5/JTAG_TCLK/SWD_CLK/EZP_CLK (io), 27 PTA1/JTAG_TDI/EZP_DI/TSI0_CH2/UART0_RX/FTM0_CH6/JTAG_TDI/EZP_DI (io), 28 PTA2/JTAG_TDO/TRACE_SWO/EZP_DO/TSI0_CH3/UART0_TX/FTM0_CH7/JTAG_TDO/TRACE_SWO/EZP_DO (io), 29 PTA3/JTAG_TMS/SWD_DIO/TSI0_CH4/UART0_RTS_B/FTM0_CH0/JTAG_TMS/SWD_DIO (io), 30 PTA4/NMI_B/EZP_CS_/TSI0_CH5/FTM0_CH1/NMI_B (io), 31 PTA5/FTM0_CH2/CMP2_OUT/I2S0_RX_BCLK/JTAG_TRST/EZP_CS_B (io), 32 PTA12/CMP2_IN0/CAN0_TX/FTM1_CH0/I2S0_TXD/FTM1_QD_PHA (io), 33 PTA13/CMP2_IN1/CAN0_RX/FTM1_CH1/I2S0_TX_FS/FTM1_QD_PHB (io), 34 PTA14/SPI0_PCS0/UART0_TX/I2S0_TX_BCLK (io), 35 PTA15/SPI0_SCK/UART0_RX/I2S0_RXD (io), 36 PTA16/SPI0_SOUT/UART0_CTS_B/I2S0_RX_FS (io), 37 PTA17/ADC1_SE17/SPI0_SIN/UART0_RTS_B/I2S0_MCLK/I2S0_CLKIN (io), 40 PTA18/EXTAL/FTM0_FLT2 (io), 41 PTA19/XTAL/FTM1_FLT0/LPT0_ALT1 (io), 43 PTB0/LCD_P0/ADC0_SE8/ADC1_SE8/TSI0_CH0/I2C0_SCL/FTM1_QD_PHA (io), 44 PTB1/LCD_P1/ADC0_SE9/ADC1_SE9/TSI0_CH6/I2C0_SDA/FTM1_QD_PHB (io), 45 PTB2/LCD_P2/ADC0_SE12/TSI0_CH7/I2C0_SCL/FTM0_FLT3 (io), 46 PTB3/LCD_P3/ADC0_SE13/TSI0_CH8/I2C0_SDA/FTM0_FLT0 (io), 47 PTB8/LCD_P8/UART3_RTS_B (io), 48 PTB9/LCD_P9/SPI1_PCS1 (io), 49 PTB10/LCD_P10/ADC1_SE14/SPI1_PCS0/FTM0_FLT1 (io), 50 PTB11/LCD_P11/ADC1_SE15/SPI1_SCK/FTM0_FLT2 (io), 51 PTB16/LCD_P12/TSI0_CH9/SPI1_SOUT/EWM_IN (io), 52 PTB17/LCD_P13/TSI0_CH10/SPI1_SIN/EWM_OUT_B (io), 53 PTB18/LCD_P14/TSI0_CH11/CAN0_TX/I2S0_TX_BCLK/FTM2_QD_PHA (io), 54 PTB19/LCD_P15/TSI0_CH12/CAN0_RX/I2S0_TX_FS/FTM2_QD_PHB (io), 55 PTC0/LCD_P20/ADC0_SE14/TSI0_CH13/SPI0_PCS4/I2S0_TXD (io), 56 PTC1/LCD_P21/ADC0_SE15/TSI0_CH14/SPI0_PCS3/FTM0_CH0 (io), 57 PTC2/LCD_P22/ADC0_SE4B/CMP1_IN0/TSI0_CH15/SPI0_PCS2/FTM0_CH1 (io), 58 PTC3/LCD_P23/CMP1_IN1/SPI0_PCS1/FTM0_CH2 (io), 65 PTC4/LCD_P24/SPI0_PCS0/UART1_TX/FTM0_CH3/CMP1_OUT (io), 66 PTC5/LCD_P25/SPI0_SCK/LPT0_ALT2/CMP0_OUT (io), 67 PTC6/LCD_P26/CMP0_IN0/SPI0_SOUT/PDB0_EXTRG (io), 68 PTC7/LCD_P27/CMP0_IN1/SPI0_SIN (io), 69 PTC8/LCD_P28/ADC1_SE4B/CMP0_IN2/I2S0_MCLK/I2S0_CLKIN (io), 70 PTC9/LCD_P29/ADC1_SE5B/CMP0_IN3/I2S0_RX_BCLK/FTM2_FLT0 (io), 71 PTC10/LCD_P30/ADC1_SE6B/CMP0_IN4/I2C1_SCL/I2S0_RX_FS (io), 72 PTC11/LCD_P31/ADC1_SE7B/I2C1_SDA/I2S0_RXD (io), 73 PTD0/LCD_P40/SPI0_PCS0/UART2_RTS_B (io), 74 PTD1/LCD_P41/ADC0_SE5B/SPI0_SCK/UART2_CTS_B (io), 75 PTD2/LCD_P42/SPI0_SOUT/UART2_RX (io), 76 PTD3/LCD_P43/SPI0_SIN/UART2_TX (io), 77 PTD4/LCD_P44/SPI0_PCS1/UART0_RTS_B/FTM0_CH4/EWM_IN (io), 78 PTD5/LCD_P45/ADC0_SE6B/SPI0_PCS2/UART0_CTS_B/FTM0_CH5/EWM_OUT_B (io), 79 PTD6/LCD_P46/ADC0_SE7B/SPI0_PCS3/UART0_RX/FTM0_CH6/FTM0_FLT0 (io), 80 PTD7/LCD_P47/CMT_IRO/FTM0_CH7/FTM0_FLT1 (io)
part B pins: 18 VREFH (power), 19 VREFL (power), 23 XTAL32 (out), 24 EXTAL32 (in), 42 RESET_B (in)
part C pins: 7 VDD (power), 8 VSS (power), 17 VDDA (power), 20 VSSA (power), 25 VBAT (power), 38 VDD (power), 39 VSS (power), 59 VSS (power), 60 VLL3 (power), 61 VLL2 (power), 62 VLL1 (power), 63 VCAP1, 64 VCAP2

## MK30N512VLL100
designator U?
Kinetis 32-Bit ARM Cortex-M4 Core, K30, 512KB Program Flash Memory, 128KB RAM,100-Pin LQFP; DatasheetVersion: rev4, Mar-2011; PackageVersion: rev3.1, Nov-2000; PackageReference: 983-02; PackageDescription: 100-Pin Shrink Quad Flat Pack 0.5 mm Pitch; Code_IPC: SQFP50P1600X1600-100; ComponentLink1Description: Manufacturer URL; ComponentLink1URL: http://www.freescale.com/
footprint 983-02_N (Shrink QFP, 100-Leads, Body 14x14mm, Pitch 0.5mm, IPC Medium Density)
footprint 983-02_L (Shrink QFP, 100-Leads, Body 14x14mm, Pitch 0.5mm, IPC High Density)
footprint 983-02_M (Shrink QFP, 100-Leads, Body 14x14mm, Pitch 0.5mm, IPC Low Density)
part A pins: 1 PTE0/ADC1_SE4A/SPI1_PCS1/UART1_TX/SDHC0_D1/I2C1_SDA (io), 2 PTE1/ADC1_SE5A/SPI1_SOUT/UART1_RX/SDHC0_D0/I2C1_SCL (io), 3 PTE2/ADC1_SE6A/SPI1_SCK/UART1_CTS_B/SDHC0_DCLK (io), 4 PTE3/ADC1_SE7A/SPI1_SIN/UART1_RTS_B/SDHC0_CMD (io), 5 PTE4/SPI1_PCS0/UART3_TX/SDHC0_D3 (io), 6 PTE5/SPI1_PCS2/UART3_RX/SDHC0_D2 (io), 7 PTE6/SPI1_PCS3/UART3_CTS/I2S0_MCLK/I2S0_CLKIN (io), 10 PTE16/ADC0_SE4A/SPI0_PCS0/UART2_TX/FTM_CLKIN0/FTM0_FLT3 (io), 11 PTE17/ADC0_SE5A/SPI0_SCK/UART2_RX/FTM_CLKIN1/LPT00_ALT3 (io), 12 PTE18/ADC0_SE6A/SPI0_SOUT/UART2_CTS_B/I2C0_SDA (io), 13 PTE19/ADC0_SE7A/SPI0_SIN/UART2_RTS_B/I2C0_SCL (io), 14 ADC0_DP1 (in), 15 ADC0_DM1 (in), 16 ADC1_DP1 (in), 17 ADC1_DM1 (in), 18 PGA0_DP/ADC0_DP0/ADC1_DP3 (in), 19 PGA0_DM/ADC0_DM0/ADC1_DM3 (in), 20 PGA1_DP/ADC1_DP0/ADC0_DP3 (in), 21 PGA1_DM/ADC1_DM0/ADC0_DM3 (in), 26 VREF_OUT/CMP1_IN5/CMP0_IN5/ADC1_SE18 (io), 27 DAC0_OUT/CMP1_IN3/ADC0_SE23 (io), 31 PTE24/ADC0_SE17/CAN1_TX/UART4_TX/EWM_OUT_B (io), 32 PTE25/ADC0_SE18/CAN1_RX/UART4_RX/EWM_IN (io), 33 PTE26/UART4_CTS_B/RTC_CLKOUT (io), 34 PTA0/TSI0_CH1/UART0_CTS_B/FTM0_CH5/JTAG_TCLK/SWD_CLK/EZP_CLK (io), 35 PTA1/TSI0_CH2/UART0_RX/FTM0_CH6/JTAG_TDI/EZP_DI (io), 36 PTA2/TSI0_CH3/UART0_TX/FTM0_CH7/JTAG_TDO/TRACE_SWO/EZP_DO (io), 37 PTA3/TSI0_CH4/UART0_RTS_B/FTM0_CH0/JTAG_TMS/SWD_DIO (io), 38 PTA4/TSI0_CH5/FTM0_CH1/NMI_B/EZP_CS_B (io), 39 PTA5/FTM0_CH1/CMP2_OUT/I2S0_RX_BCLK/JTAG_TRST (io), 42 PTA12/CMP2_IN0/CAN0_TX/FTM1_CH0/I2S0_TXD/FTM1_QD_PHA (io), 43 PTA13/CMP2_IN1/CAN0_RX/FTM1_CH1/I2S0_TX_FS/FTM1_QD_PHB (io), 44 PTA14/SPI0_PCS0/UART0_TX/I2S0_TX_BCLK (io), 45 PTA15/SPI0_SCK/UART0_RX/I2S0_RXD (io), 46 PTA16/SPI0_SOUT/UART0_CTS_B/I2S0_RX_FS (io), 47 PTA17/ADC1_SE17/SPI0_SIN/UART0_RTS_B/I2S0_MCLK/I2S0_CLKIN (io), 50 PTA18/FTM0_FLT2/FTM_CLKIN0 (io), 51 PTA19/FTM1_FLT0/FTM_CLKIN1 (io), 53 PTB0/LCD_P0/ADC0_SE8/ADC1_SE8/TSI0_CH0/I2C0_SCL/FTM1_CH0/FTM1_QD_PHA (io), 54 PTB1/LCD_P1/ADC0_SE9/ADC1_SE9/TSI0_CH6/I2C0_SDA/FTM1_CH1/FTM1_QD_PHB (io), 55 PTB2/LCD_P2/ADC0_SE12/TSI0_CH7/I2C0_SCL/UART0_RTS_B/FTM0_FLT3 (io), 56 PTB3/LCD_P3/ADC0_SE13/TSI0_CH8/I2C0_SDA/UART0_CTS_B/FTM0_FLT0 (io), 57 PTB7/LCD_P7/ADC1_SE13 (io), 58 PTB8/LCD_P8/UART3_RTS_B (io), 59 PTB9/LCD_P9/SPI1_PCS1/UART3_CTS_B (io), 60 PTB10/LCD_P10/ADC1_SE14/SPI1_PCS0/UART3_RX/FTM0_FLT1 (io), 61 PTB11/LCD_P11/ADC1_SE15/SPI1_SCK/UART3_TX/FTM0_FLT2 (io), 62 PTB16/LCD_P12/TSI0_CH9/SPI1_SOUT/UART0_RX/EWM_IN (io), 63 PTB17/LCD_P13/TSI0_CH10/SPI1_SIN/UART0_TX/EWM_OUT_B (io), 64 PTB18/LCD_P14/TSI0_CH11/CAN0_TX/FTM2_CH0/I2S0_TX_BCLK/FTM2_QD_PHA (io), 65 PTB19/LCD_P15/TSI0_CH12/CAN0_RX/FTM2_CH1/I2S0_TX_FS/FTM2_QD_PHB (io), 66 PTB20/LCD_P16/SPI2_PCS0/CMP0_OUT (io), 67 PTB21/LCD_P17/SPI2_SCK/CMP1_OUT (io), 68 PTB22/LCD_P18/SPI2_SOUT/CMP2_OUT (io), 69 PTB23/LCD_P19/SPI2_SIN/SPI0_PCS5 (io), 70 PTC0/LCD_P20/ADC0_SE14/TSI0_CH13/SPI0_PCS4/PDB0_EXTRG/I2S0_TXD (io), 71 PTC1/LCD_P21/ADC0_SE15/TSI0_CH14/SPI0_PCS3/UART1_RTS_B/FTM0_CH0 (io), 72 PTC2/LCD_P22/ADC0_SE4B/CMP1_IN0/TSI0_CH15/SPI0_PCS2/UART1_CTS_B/FTM0_CH1 (io), 73 PTC3/LCD_P23/CMP1_IN1/SPI0_PCS1/UART1_RX/FTM0_CH2 (io), 80 PTC4/LCD_P24/SPI0_PCS0/UART1_TX/FTM0_CH3/CMP1_OUT (io), 81 PTC5/LCD_P25/SPI0_SCK/LPT0_ALT2/CMP0_OUT (io), 82 PTC6/LCD_P26/CMP0_IN0/SPI0_SOUT/PDB0_EXTRG (io), 83 PTC7/LCD_P27/CMP0_IN1/SPI0_SIN (io), 84 PTC8/LCD_P28/ADC1_SE4B/CMP0_IN2/I2S0_MCLK/I2S0_CLKIN (io), 85 PTC9/LCD_P29/ADC1_SE5B/CMP0_IN3/I2S0_RX_BCLK/FTM2_FLT0 (io), 86 PTC10/LCD_P30/ADC1_SE6B/CMP0_IN4/I2C1_SCL/I2S0_RX_FS (io), 87 PTC11/LCD_P31/ADC1_SE7B/I2C1_SDA/I2S0_RXD (io), 90 PTC16/LCD_P36/CAN1_RX/UART3_RX (io), 91 PTC17/LCD_P37/CAN1_TX/UART3_TX (io), 92 PTC18/LCD_P38/UART3_RTS_B (io), 93 PTD0/LCD_P40/SPI0_PCS0/UART2_RTS_B (io), 94 PTD1/LCD_P41/ADC0_SE5B/SPI0_SCK/UART2_CTS_B (io), 95 PTD2/LCD_P42/SPI0_SOUT/UART2_RX (io), 96 PTD3/LCD_P43/SPI0_SIN/UART2_TX (io), 97 PTD4/LCD_P44/SPI0_PCS1/UART0_RTS_B/FTM0_CH4/EWM_IN (io), 98 PTD5/LCD_P45/ADC0_SE6B/SPI0_PCS2/UART0_CTS_B/FTM0_CH5/EWM_OUT_B (io), 99 PTD6/LCD_P46/ADC0_SE7B/SPI0_PCS3/UART0_RX/FTM0_CH6/FTM0_FLT0 (io), 100 PTD7/LCD_P47/CMT_IRO/UART0_TX/FTM0_CH7/FTM0_FLT1 (io)
part B pins: 23 VREFH (power), 24 VREFL (power), 28 XTAL32 (out), 29 EXTAL32 (in), 52 RESET_B (in)
part C pins: 8 VDD (power), 9 VSS (power), 22 VDDA (power), 25 VSSA (power), 30 VBAT (power), 40 VDD (power), 41 VSS (power), 48 VDD (power), 49 VSS (power), 74 VSS (power), 75 VLL3 (power), 76 VLL2 (power), 77 VLL1 (power), 78 VCAP2, 79 VCAP1, 88 VSS (power), 89 VDD (power)

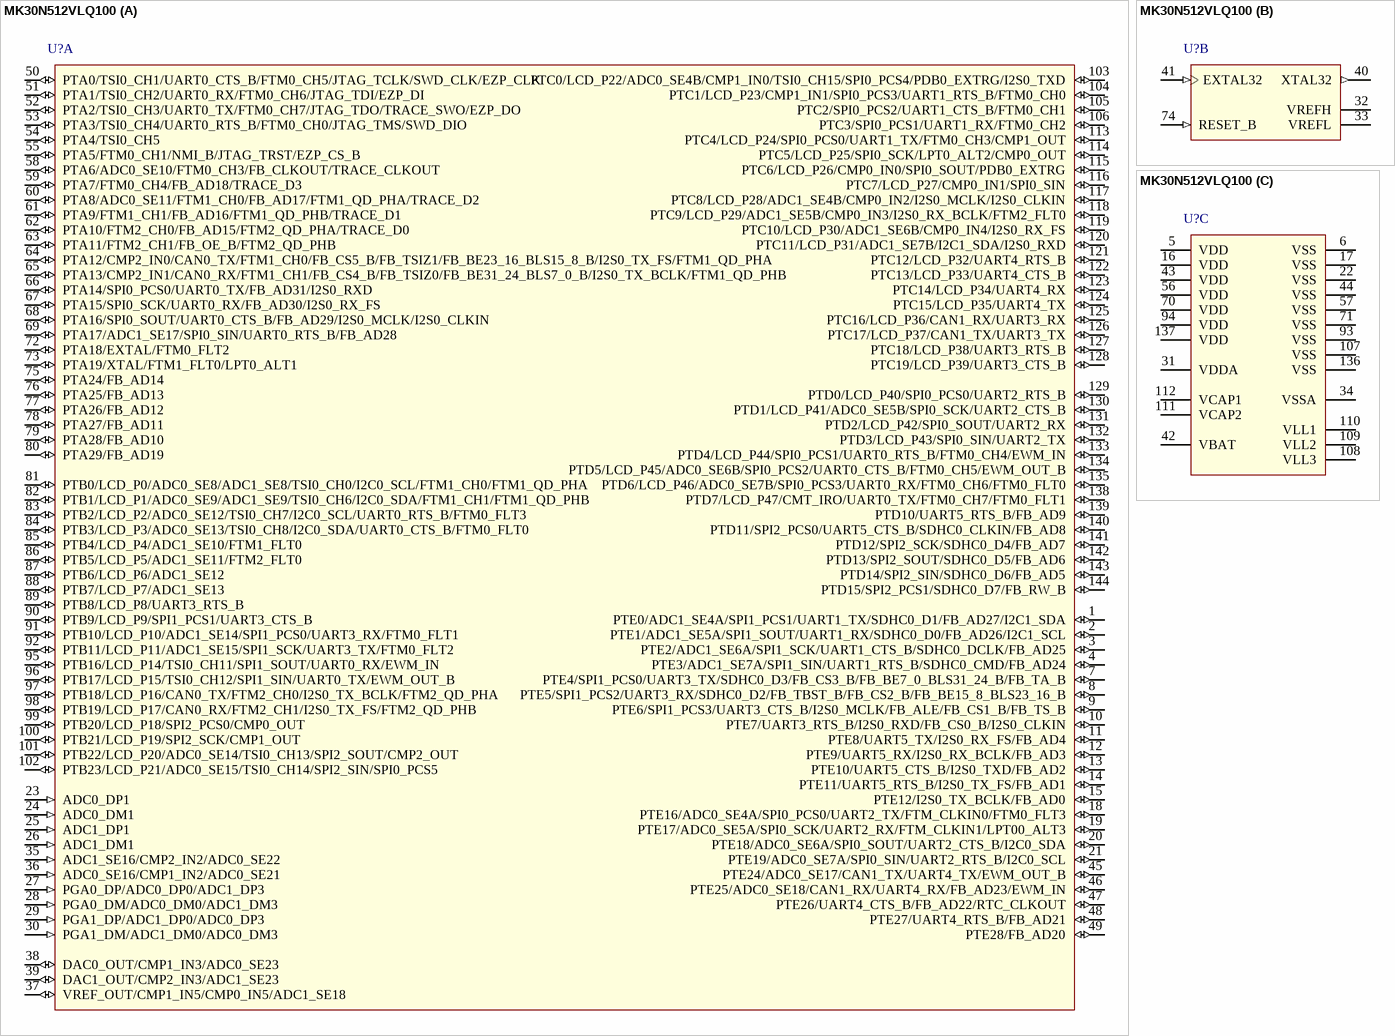
[diagram p11: symbol MK30N512VLQ100]

## MK30N512VLQ100
designator U?
Kinetis 32-Bit ARM Cortex-M4 Core, K30, 512KB Program Flash Memory, 128KB RAM, 144-Pin LQFP; DatasheetVersion: rev4, Mar-2011; PackageVersion: revG, Nov-2009; PackageReference: 918-03; PackageDescription: 144-Pin Thin Quad Flat Pack, 20 x 20 mm Body, 0.5 mm Pitch; ComponentLink1Description: Manufacturer URL; ComponentLink1URL: http://www.freescale.com/
footprint 918-03_N (Thin QFP, 144-Leads, Body 20x20mm, Pitch 0.5mm, IPC Medium Density)
footprint 918-03_L (Thin QFP, 144-Leads, Body 20x20mm, Pitch 0.5mm, IPC High Density)
footprint 918-03_M (Thin QFP, 144-Leads, Body 20x20mm, Pitch 0.5mm, IPC Low Density)
part A pins: 1 PTE0/ADC1_SE4A/SPI1_PCS1/UART1_TX/SDHC0_D1/FB_AD27/I2C1_SDA (io), 2 PTE1/ADC1_SE5A/SPI1_SOUT/UART1_RX/SDHC0_D0/FB_AD26/I2C1_SCL (io), 3 PTE2/ADC1_SE6A/SPI1_SCK/UART1_CTS_B/SDHC0_DCLK/FB_AD25 (io), 4 PTE3/ADC1_SE7A/SPI1_SIN/UART1_RTS_B/SDHC0_CMD/FB_AD24 (io), 7 PTE4/SPI1_PCS0/UART3_TX/SDHC0_D3/FB_CS3_B/FB_BE7_0_BLS31_24_B/FB_TA_B (io), 8 PTE5/SPI1_PCS2/UART3_RX/SDHC0_D2/FB_TBST_B/FB_CS2_B/FB_BE15_8_BLS23_16_B (io), 9 PTE6/SPI1_PCS3/UART3_CTS_B/I2S0_MCLK/FB_ALE/FB_CS1_B/FB_TS_B (io), 10 PTE7/UART3_RTS_B/I2S0_RXD/FB_CS0_B/I2S0_CLKIN (io), 11 PTE8/UART5_TX/I2S0_RX_FS/FB_AD4 (io), 12 PTE9/UART5_RX/I2S0_RX_BCLK/FB_AD3 (io), 13 PTE10/UART5_CTS_B/I2S0_TXD/FB_AD2 (io), 14 PTE11/UART5_RTS_B/I2S0_TX_FS/FB_AD1 (io), 15 PTE12/I2S0_TX_BCLK/FB_AD0 (io), 18 PTE16/ADC0_SE4A/SPI0_PCS0/UART2_TX/FTM_CLKIN0/FTM0_FLT3 (io), 19 PTE17/ADC0_SE5A/SPI0_SCK/UART2_RX/FTM_CLKIN1/LPT00_ALT3 (io), 20 PTE18/ADC0_SE6A/SPI0_SOUT/UART2_CTS_B/I2C0_SDA (io), 21 PTE19/ADC0_SE7A/SPI0_SIN/UART2_RTS_B/I2C0_SCL (io), 23 ADC0_DP1 (in), 24 ADC0_DM1 (in), 25 ADC1_DP1 (in), 26 ADC1_DM1 (in), 27 PGA0_DP/ADC0_DP0/ADC1_DP3 (in), 28 PGA0_DM/ADC0_DM0/ADC1_DM3 (in), 29 PGA1_DP/ADC1_DP0/ADC0_DP3 (in), 30 PGA1_DM/ADC1_DM0/ADC0_DM3 (in), 35 ADC1_SE16/CMP2_IN2/ADC0_SE22 (in), 36 ADC0_SE16/CMP1_IN2/ADC0_SE21 (in), 37 VREF_OUT/CMP1_IN5/CMP0_IN5/ADC1_SE18 (io), 38 DAC0_OUT/CMP1_IN3/ADC0_SE23 (io), 39 DAC1_OUT/CMP2_IN3/ADC1_SE23 (io), 45 PTE24/ADC0_SE17/CAN1_TX/UART4_TX/EWM_OUT_B (io), 46 PTE25/ADC0_SE18/CAN1_RX/UART4_RX/FB_AD23/EWM_IN (io), 47 PTE26/UART4_CTS_B/FB_AD22/RTC_CLKOUT (io), 48 PTE27/UART4_RTS_B/FB_AD21 (io), 49 PTE28/FB_AD20 (io), 50 PTA0/TSI0_CH1/UART0_CTS_B/FTM0_CH5/JTAG_TCLK/SWD_CLK/EZP_CLK (io), 51 PTA1/TSI0_CH2/UART0_RX/FTM0_CH6/JTAG_TDI/EZP_DI (io), 52 PTA2/TSI0_CH3/UART0_TX/FTM0_CH7/JTAG_TDO/TRACE_SWO/EZP_DO (io), 53 PTA3/TSI0_CH4/UART0_RTS_B/FTM0_CH0/JTAG_TMS/SWD_DIO (io), 54 PTA4/TSI0_CH5 (io), 55 PTA5/FTM0_CH1/NMI_B/JTAG_TRST/EZP_CS_B (io), 58 PTA6/ADC0_SE10/FTM0_CH3/FB_CLKOUT/TRACE_CLKOUT (io), 59 PTA7/FTM0_CH4/FB_AD18/TRACE_D3 (io), 60 PTA8/ADC0_SE11/FTM1_CH0/FB_AD17/FTM1_QD_PHA/TRACE_D2 (io), 61 PTA9/FTM1_CH1/FB_AD16/FTM1_QD_PHB/TRACE_D1 (io), 62 PTA10/FTM2_CH0/FB_AD15/FTM2_QD_PHA/TRACE_D0 (io), 63 PTA11/FTM2_CH1/FB_OE_B/FTM2_QD_PHB (io), 64 PTA12/CMP2_IN0/CAN0_TX/FTM1_CH0/FB_CS5_B/FB_TSIZ1/FB_BE23_16_BLS15_8_B/I2S0_TX_FS/FTM1_QD_PHA (io), 65 PTA13/CMP2_IN1/CAN0_RX/FTM1_CH1/FB_CS4_B/FB_TSIZ0/FB_BE31_24_BLS7_0_B/I2S0_TX_BCLK/FTM1_QD_PHB (io), 66 PTA14/SPI0_PCS0/UART0_TX/FB_AD31/I2S0_RXD (io), 67 PTA15/SPI0_SCK/UART0_RX/FB_AD30/I2S0_RX_FS (io), 68 PTA16/SPI0_SOUT/UART0_CTS_B/FB_AD29/I2S0_MCLK/I2S0_CLKIN (io), 69 PTA17/ADC1_SE17/SPI0_SIN/UART0_RTS_B/FB_AD28 (io), 72 PTA18/EXTAL/FTM0_FLT2 (io), 73 PTA19/XTAL/FTM1_FLT0/LPT0_ALT1 (io), 75 PTA24/FB_AD14 (io), 76 PTA25/FB_AD13 (io), 77 PTA26/FB_AD12 (io), 78 PTA27/FB_AD11 (io), 79 PTA28/FB_AD10 (io), 80 PTA29/FB_AD19 (io), 81 PTB0/LCD_P0/ADC0_SE8/ADC1_SE8/TSI0_CH0/I2C0_SCL/FTM1_CH0/FTM1_QD_PHA (io), 82 PTB1/LCD_P1/ADC0_SE9/ADC1_SE9/TSI0_CH6/I2C0_SDA/FTM1_CH1/FTM1_QD_PHB (io), 83 PTB2/LCD_P2/ADC0_SE12/TSI0_CH7/I2C0_SCL/UART0_RTS_B/FTM0_FLT3 (io), 84 PTB3/LCD_P3/ADC0_SE13/TSI0_CH8/I2C0_SDA/UART0_CTS_B/FTM0_FLT0 (io), 85 PTB4/LCD_P4/ADC1_SE10/FTM1_FLT0 (io), 86 PTB5/LCD_P5/ADC1_SE11/FTM2_FLT0 (io), 87 PTB6/LCD_P6/ADC1_SE12 (io), 88 PTB7/LCD_P7/ADC1_SE13 (io), 89 PTB8/LCD_P8/UART3_RTS_B (io), 90 PTB9/LCD_P9/SPI1_PCS1/UART3_CTS_B (io), 91 PTB10/LCD_P10/ADC1_SE14/SPI1_PCS0/UART3_RX/FTM0_FLT1 (io), 92 PTB11/LCD_P11/ADC1_SE15/SPI1_SCK/UART3_TX/FTM0_FLT2 (io), 95 PTB16/LCD_P14/TSI0_CH11/SPI1_SOUT/UART0_RX/EWM_IN (io), 96 PTB17/LCD_P15/TSI0_CH12/SPI1_SIN/UART0_TX/EWM_OUT_B (io), 97 PTB18/LCD_P16/CAN0_TX/FTM2_CH0/I2S0_TX_BCLK/FTM2_QD_PHA (io), 98 PTB19/LCD_P17/CAN0_RX/FTM2_CH1/I2S0_TX_FS/FTM2_QD_PHB (io), 99 PTB20/LCD_P18/SPI2_PCS0/CMP0_OUT (io), 100 PTB21/LCD_P19/SPI2_SCK/CMP1_OUT (io), 101 PTB22/LCD_P20/ADC0_SE14/TSI0_CH13/SPI2_SOUT/CMP2_OUT (io), 102 PTB23/LCD_P21/ADC0_SE15/TSI0_CH14/SPI2_SIN/SPI0_PCS5 (io), 103 PTC0/LCD_P22/ADC0_SE4B/CMP1_IN0/TSI0_CH15/SPI0_PCS4/PDB0_EXTRG/I2S0_TXD (io), 104 PTC1/LCD_P23/CMP1_IN1/SPI0_PCS3/UART1_RTS_B/FTM0_CH0 (io), 105 PTC2/SPI0_PCS2/UART1_CTS_B/FTM0_CH1 (io), 106 PTC3/SPI0_PCS1/UART1_RX/FTM0_CH2 (io), 113 PTC4/LCD_P24/SPI0_PCS0/UART1_TX/FTM0_CH3/CMP1_OUT (io), 114 PTC5/LCD_P25/SPI0_SCK/LPT0_ALT2/CMP0_OUT (io), 115 PTC6/LCD_P26/CMP0_IN0/SPI0_SOUT/PDB0_EXTRG (io), 116 PTC7/LCD_P27/CMP0_IN1/SPI0_SIN (io), 117 PTC8/LCD_P28/ADC1_SE4B/CMP0_IN2/I2S0_MCLK/I2S0_CLKIN (io), 118 PTC9/LCD_P29/ADC1_SE5B/CMP0_IN3/I2S0_RX_BCLK/FTM2_FLT0 (io), 119 PTC10/LCD_P30/ADC1_SE6B/CMP0_IN4/I2S0_RX_FS (io), 120 PTC11/LCD_P31/ADC1_SE7B/I2C1_SDA/I2S0_RXD (io), 121 PTC12/LCD_P32/UART4_RTS_B (io), 122 PTC13/LCD_P33/UART4_CTS_B (io), 123 PTC14/LCD_P34/UART4_RX (io), 124 PTC15/LCD_P35/UART4_TX (io), 125 PTC16/LCD_P36/CAN1_RX/UART3_RX (io), 126 PTC17/LCD_P37/CAN1_TX/UART3_TX (io), 127 PTC18/LCD_P38/UART3_RTS_B (io), 128 PTC19/LCD_P39/UART3_CTS_B (io), 129 PTD0/LCD_P40/SPI0_PCS0/UART2_RTS_B (io), 130 PTD1/LCD_P41/ADC0_SE5B/SPI0_SCK/UART2_CTS_B (io), 131 PTD2/LCD_P42/SPI0_SOUT/UART2_RX (io), 132 PTD3/LCD_P43/SPI0_SIN/UART2_TX (io), 133 PTD4/LCD_P44/SPI0_PCS1/UART0_RTS_B/FTM0_CH4/EWM_IN (io), 134 PTD5/LCD_P45/ADC0_SE6B/SPI0_PCS2/UART0_CTS_B/FTM0_CH5/EWM_OUT_B (io), 135 PTD6/LCD_P46/ADC0_SE7B/SPI0_PCS3/UART0_RX/FTM0_CH6/FTM0_FLT0 (io), 138 PTD7/LCD_P47/CMT_IRO/UART0_TX/FTM0_CH7/FTM0_FLT1 (io), 139 PTD10/UART5_RTS_B/FB_AD9 (io), 140 PTD11/SPI2_PCS0/UART5_CTS_B/SDHC0_CLKIN/FB_AD8 (io), 141 PTD12/SPI2_SCK/SDHC0_D4/FB_AD7 (io), 142 PTD13/SPI2_SOUT/SDHC0_D5/FB_AD6 (io), 143 PTD14/SPI2_SIN/SDHC0_D6/FB_AD5 (io), 144 PTD15/SPI2_PCS1/SDHC0_D7/FB_RW_B (io)
part B pins: 32 VREFH (power), 33 VREFL (power), 40 XTAL32 (out), 41 EXTAL32 (in), 74 RESET_B (in)
part C pins: 5 VDD (power), 6 VSS (power), 16 VDD (power), 17 VSS (power), 22 VSS (power), 31 VDDA (power), 34 VSSA (power), 42 VBAT (power), 43 VDD (power), 44 VSS (power), 56 VDD (power), 57 VSS (power), 70 VDD (power), 71 VSS (power), 93 VSS (power), 94 VDD (power), 107 VSS (power), 108 VLL3 (power), 109 VLL2 (power), 110 VLL1 (power), 111 VCAP2, 112 VCAP1, 136 VSS (power), 137 VDD (power)

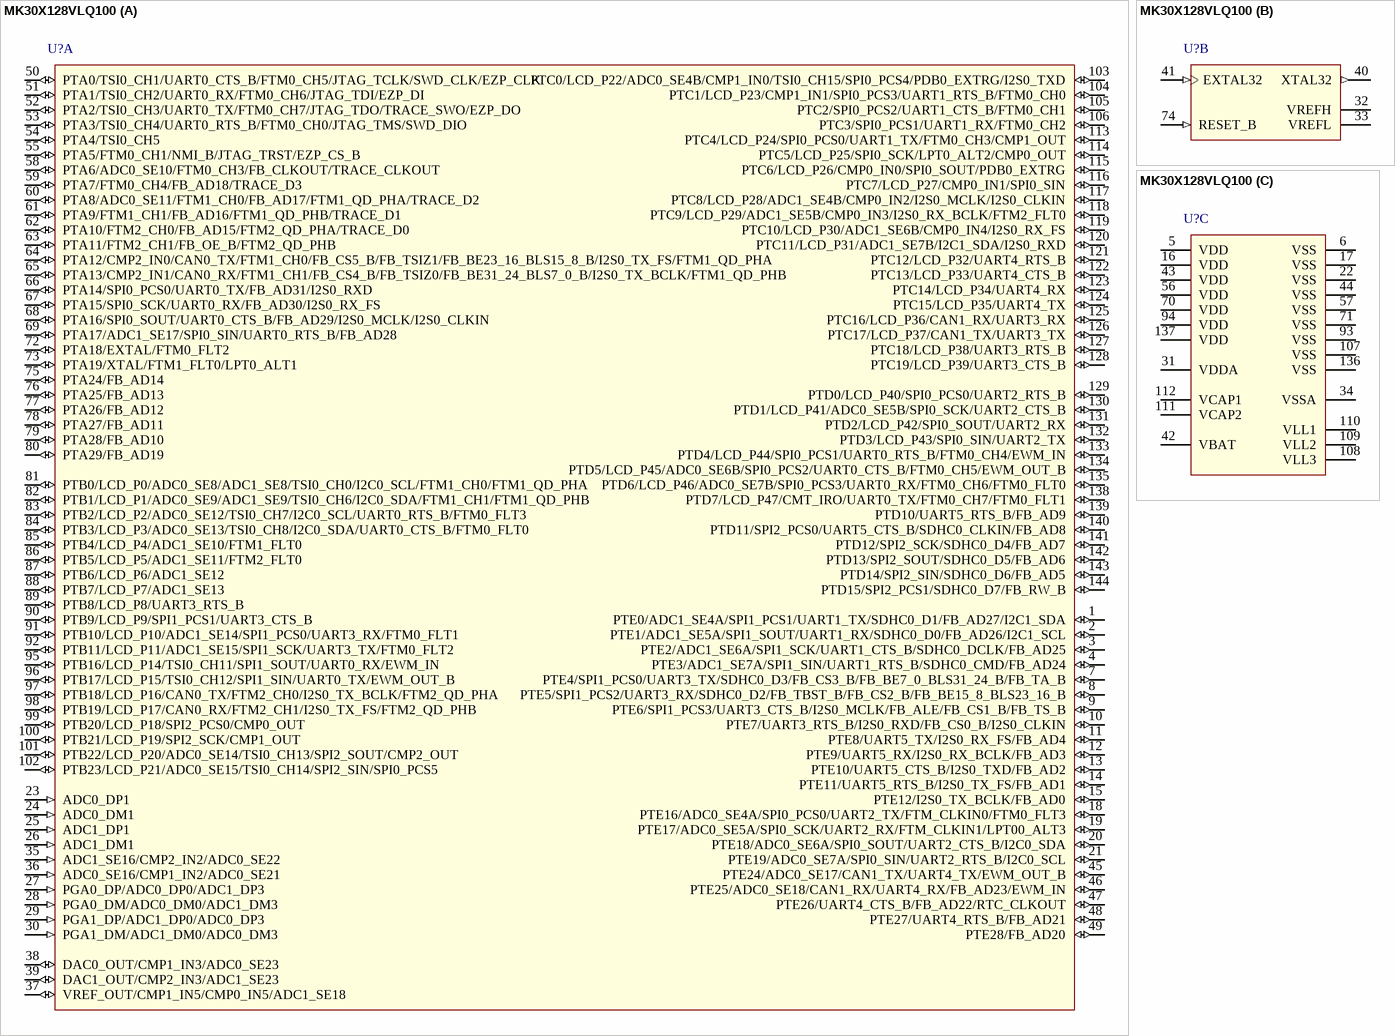
[diagram p12: symbol MK30X128VLQ100]